# Altium schematic symbol library Integrated circuits.SchLib: 329 symbols (part 5 of 5)
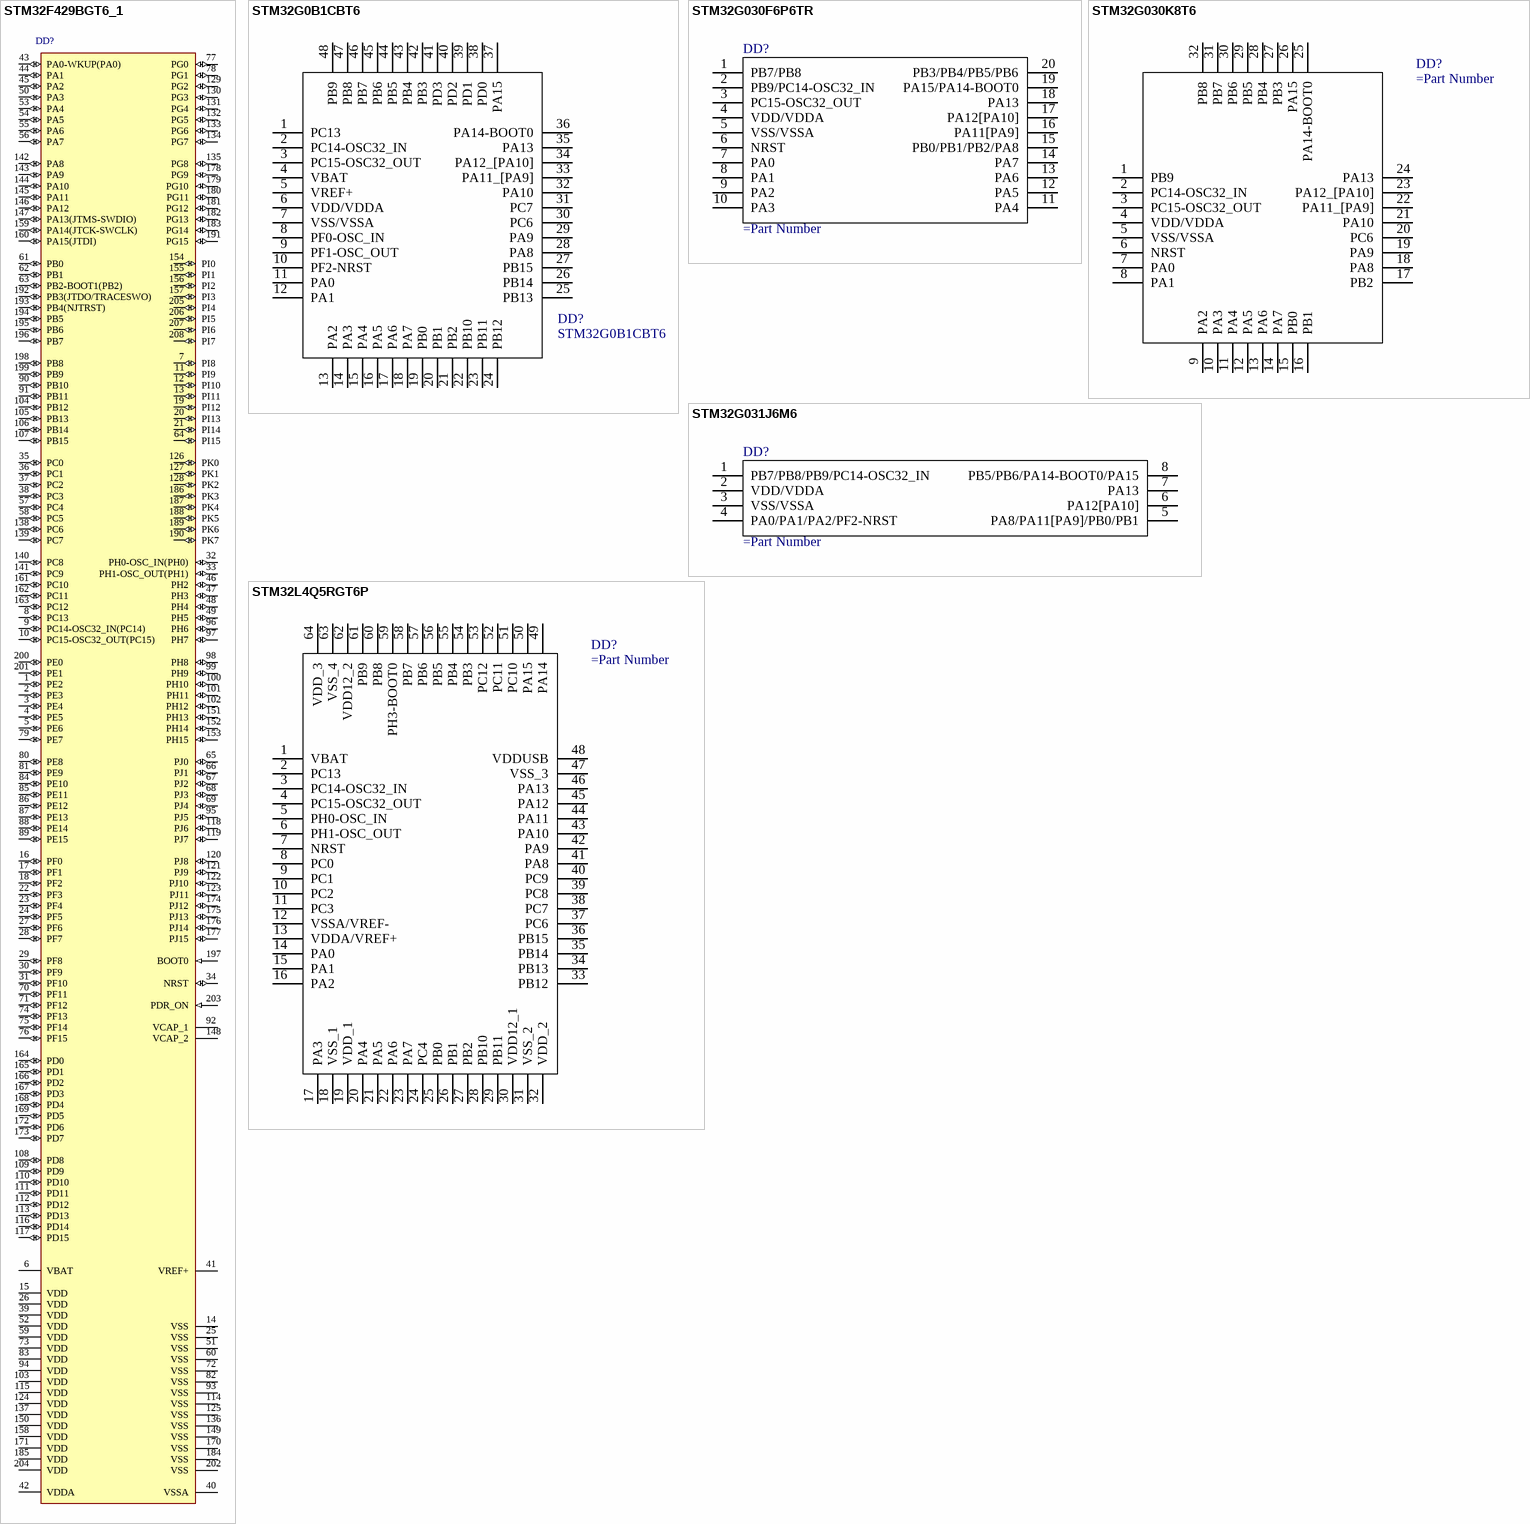
[diagram p29: symbols STM32F429BGT6_1 to STM32L4Q5RGT6P]

## STM32F429BGT6_1
designator DD?
ARM Cortex-M4 32-bit MCU+FPU, 225 DMIPS, 1024 kB Flash, 256 kB Internal RAM, 168 I/Os, 208-pin LQFP, -40 to 85 degC, Tray; Manufacturer: STMicroelectronics; PartNumber: STM32F429BGT6; D/A Converter: 2x12-bit; FLASH Size (Prog) (kB): 1024; I/Os (High Current): 168; Internal RAM Size (kB): 256; Operating Frequency(F) (Processor speed) (MHz): 180; Supply Voltage(Vcc) max (V): 3.6; Supply Voltage(Vcc) min (V): 1.8; DatasheetVersion: Rev. 2; PackageVersion: Rev. 2, 05/2013; PackageReference: LQFP208; PackageDescription: 208-Pin Low Profile Quad Flat Package, 28 x 28 mm Body, 0.5 mm Pitch; Supplier 1: Mouser; Supplier Part Number 1: N/A; Core: ARM Cortex-M4; Packing: Tray; Mounting Technology: Surface Mount; ComponentLink1Description: Manufacturer URL; ComponentLink1URL: http://www.st.com/web/en/home.html; ComponentLink2Description: Datasheet; ComponentLink2URL: http://www.st.com/st-web-ui/static/active/en/resource/technical/document/data_brief/DM00053488.pdf; ComponentLink3Description: Package Specification; ComponentLink3URL: http://www.st.com/st-web-ui/static/active/en/resource/technical/document/data_brief/DM00053488.pdf
footprint STM-LQFP208_N (QFP, 208-Leads, Body 28x28mm, Pitch 0.5mm, IPC Medium Density)
footprint STM-LQFP208_L (QFP, 208-Leads, Body 28x28mm, Pitch 0.5mm, IPC High Density)
footprint STM-LQFP208_M (QFP, 208-Leads, Body 28x28mm, Pitch 0.5mm, IPC Low Density)
pins: 1 PE2 (io) "PE2/TRACECLK,SPI4_SCK,SAI1_MCLK_A,ETH_MII_TXD3,FMC_A23,EVENTOUT", 2 PE3 (io) "PE3/TRACED0,SAI1_SD_B,FMC_A19,EVENTOUT", 3 PE4 (io) "PE4/TRACED1,SPI4_NSS,SAI1_FS_A,FMC_A20,DCMI_D4,LCD_B0,EVENTOUT", 4 PE5 (io) "PE5/TRACED2,TIM9_CH1,SPI4_MISO,SAI1_SCK_A,FMC_A21,DCMI_D6,LCD_G0,EVENTOUT", 5 PE6 (io) "PE6/TRACED3,TIM9_CH2,SPI4_MOSI,SAI1_SD_A,FMC_A22,DCMI_D7,LCD_G1,EVENTOUT", 6 VBAT (power), 7 PI8 (io) "PI8/EVENTOUT/TAMP_2", 8 PC13 (io) "PC13/EVENTOUT/TAMP_1", 9 PC14-OSC32_IN(PC14) (io) "PC14-OSC32_IN(PC14)/EVENTOUT/OSC32_IN", 10 PC15-OSC32_OUT(PC15) (io) "PC15-OSC32_OUT(PC15)/EVENTOUT/OSC32_OUT", 11 PI9 (io) "PI9/CAN1_RX,FMC_D30,LCD_VSYNC,EVENTOUT", 12 PI10 (io) "PI10/ETH_MII_RX_ER,FMC_D31,LCD_HSYNC,EVENTOUT", 13 PI11 (io) "PI11/OTG_HS_ULPI_DIR,EVENTOUT", 14 VSS (power), 15 VDD (power), 16 PF0 (io) "PF0/I2C2_SDA,FMC_A0,EVENTOUT", 17 PF1 (io) "PF1/I2C2_SCL,FMC_A1,EVENTOUT", 18 PF2 (io) "PF2/I2C2_SMBA,FMC_A2,EVENTOUT", 19 PI12 (io) "PI12/LCD_HSYNC,EVENTOUT", 20 PI13 (io) "PI13/LCD_VSYNC,EVENTOUT", 21 PI14 (io) "PI14/LCD_CLK,EVENTOUT", 22 PF3 (io) "PF3/FMC_A3,EVENTOUT/ADC3_IN9", 23 PF4 (io) "PF4/FMC_A4,EVENTOUT/ADC3_IN14", 24 PF5 (io) "PF5/FMC_A5,EVENTOUT/ADC3_IN15", 25 VSS (power), 26 VDD (power), 27 PF6 (io) "PF6/TIM10_CH1,SPI5_NSS,SAI1_SD_B,UART7_RX,FMC_NIORD,EVENTOUT/ADC3_IN4", 28 PF7 (io) "PF7/TIM11_CH1,SPI5_SCK,SAI1_MCLK_B,UART7_TX,FMC_NREG,EVENTOUT/ADC3_IN5", 29 PF8 (io) "PF8/SPI5_MISO,SAI1_SCK_B,TIM13_CH1,FMC_NIOWR,EVENTOUT/ADC3_IN6", 30 PF9 (io) "PF9/SPI5_MOSI,SAI1_FS_B,TIM14_CH1,FMC_CD,EVENTOUT/ADC3_IN7", 31 PF10 (io) "PF10/FMC_INTR,DCMI_D11,LCD_DE,EVENTOUT/ADC3_IN8", 32 PH0-OSC_IN(PH0) (io) "PH0-OSC_IN(PH0)/EVENTOUT/OSC_IN", 33 PH1-OSC_OUT(PH1) (io) "PH1-OSC_OUT(PH1)/EVENTOUT/OSC_OUT", 34 NRST (io), 35 PC0 (io) "PC0/OTG_HS_ULPI_STP,FMC_SDNWE,EVENTOUT/ADC123_IN10", 36 PC1 (io) "PC1/ETH_MDC,EVENTOUT/ADC123_IN11", 37 PC2 (io) "PC2/SPI2_MISO,I2S2ext_SD,OTG_HS_ULPI_DIR,ETH_MII_TXD2,FMC_SDNE0,EVENTOUT/ADC123_IN12", 38 PC3 (io) "PC3/SPI2_MOSI/I2S2_SD,OTG_HS_ULPI_NXT,ETH_MII_TX_CLK,FMC_SDCKE0,EVENTOUT/ADC123_IN13", 39 VDD (power), 40 VSSA (power), 41 VREF+ (power), 42 VDDA (power), 43 PA0-WKUP(PA0) (io) "PA0-WKUP(PA0)/TIM2_CH1/TIM2_ETR,TIM5_CH1,TIM8_ETR,USART2_CTS,UART4_TX,ETH_MII_CRS,EVENTOUT/ADC123_IN0/WKUP", 44 PA1 (io) "PA1/TIM2_CH2,TIM5_CH2,USART2_RTS,UART4_RX,ETH_MII_RX_CLK/ETH_RMII_REF_CLK,EVENTOUT/ADC123_IN1", 45 PA2 (io) "PA2/TIM2_CH3,TIM5_CH3,TIM9_CH1,USART2_TX,ETH_MDIO,EVENTOUT/ADC123_IN2", 46 PH2 (io) "PH2/ETH_MII_CRS,FMC_SDCKE0,LCD_R0,EVENTOUT", 47 PH3 (io) "PH3/ETH_MII_COL,FMC_SDNE0,LCD_R1,EVENTOUT", 48 PH4 (io) "PH4/I2C2_SCL,OTG_HS_ULPI_NXT,EVENTOUT", 49 PH5 (io) "PH5/I2C2_SDA,SPI5_NSS,FMC_SDNWE,EVENTOUT", 50 PA3 (io) "PA3/TIM2_CH4,TIM5_CH4,TIM9_CH2,USART2_RX,OTG_HS_ULPI_D0,ETH_MII_COL,LCD_B5,EVENTOUT/ADC123_IN3", 51 VSS (power), 52 VDD (power), 53 PA4 (io) "PA4/SPI1_NSS,SPI3_NSS/I2S3_WS,USART2_CK,OTG_HS_SOF,DCMI_HSYNC,LCD_VSYNC,EVENTOUT/ADC12_IN4/DAC_OUT1", 54 PA5 (io) "PA5/TIM2_CH1/TIM2_ETR,TIM8_CH1N,SPI1_SCK,OTG_HS_ULPI_CK,EVENTOUT/ADC12_IN5/DAC_OUT2", 55 PA6 (io) "PA6/TIM1_BKIN,TIM3_CH1,TIM8_BKIN,SPI1_MISO,TIM13_CH1,DCMI_PIXCLK,LCD_G2,EVENTOUT/ADC12_IN6", 56 PA7 (io) "PA7/TIM1_CH1N,TIM3_CH2,TIM8_CH1N,SPI1_MOSI,TIM14_CH1,ETH_MII_RX_DV/ETH_RMII_CRS_DV,EVENTOUT/ADC12_IN7", 57 PC4 (io) "PC4/ETH_MII_RXD0/ETH_RMII_RXD0,EVENTOUT/ADC12_IN14", 58 PC5 (io) "PC5/ETH_MII_RXD1/ETH_RMII_RXD1,EVENTOUT/ADC12_IN15", 59 VDD (power), 60 VSS (power), 61 PB0 (io) "PB0/TIM1_CH2N,TIM3_CH3,TIM8_CH2N,LCD_R3,OTG_HS_ULPI_D1,ETH_MII_RXD2,EVENTOUT/ADC12_IN8", 62 PB1 (io) "PB1/TIM1_CH3N,TIM3_CH4,TIM8_CH3N,LCD_R6,OTG_HS_ULPI_D2,ETH_MII_RXD3,EVENTOUT/ADC12_IN9", 63 PB2-BOOT1(PB2) (io) "PB2-BOOT1(PB2)/EVENTOUT", 64 PI15 (io) "PI15/LCD_R0,EVENTOUT", 65 PJ0 (io) "PJ0/LCD_R1,EVENTOUT", 66 PJ1 (io) "PJ1/LCD_R2,EVENTOUT", 67 PJ2 (io) "PJ2/LCD_R3,EVENTOUT", 68 PJ3 (io) "PJ3/LCD_R4,EVENTOUT", 69 PJ4 (io) "PJ4/LCD_R5,EVENTOUT", 70 PF11 (io) "PF11/SPI5_MOSI,FMC_SDNRAS,DCMI_D12,EVENTOUT", 71 PF12 (io) "PF12/FMC_A6,EVENTOUT", 72 VSS (power), 73 VDD (power), 74 PF13 (io) "PF13/FMC_A7,EVENTOUT", 75 PF14 (io) "PF14/FMC_A8,EVENTOUT", 76 PF15 (io) "PF15/FMC_A9,EVENTOUT", 77 PG0 (io) "PG0/FMC_A10,EVENTOUT", 78 PG1 (io) "PG1/FMC_A11,EVENTOUT", 79 PE7 (io) "PE7/TIM1_ETR,UART7_RX,FMC_D4,EVENTOUT", 80 PE8 (io) "PE8/TIM1_CH1N,UART7_TX,FMC_D5,EVENTOUT", 81 PE9 (io) "PE9/TIM1_CH1,FMC_D6,EVENTOUT", 82 VSS (power), 83 VDD (power), 84 PE10 (io) "PE10/TIM1_CH2N,FMC_D7,EVENTOUT", 85 PE11 (io) "PE11/TIM1_CH2,SPI4_NSS,FMC_D8,LCD_G3,EVENTOUT", 86 PE12 (io) "PE12/TIM1_CH3N,SPI4_SCK,FMC_D9,LCD_B4,EVENTOUT", 87 PE13 (io) "PE13/TIM1_CH3,SPI4_MISO,FMC_D10,LCD_DE,EVENTOUT", 88 PE14 (io) "PE14/TIM1_CH4,SPI4_MOSI,FMC_D11,LCD_CLK,EVENTOUT", 89 PE15 (io) "PE15/TIM1_BKIN,FMC_D12,LCD_R7,EVENTOUT", 90 PB10 (io) "PB10/TIM2_CH3,I2C2_SCL,SPI2_SCK/I2S2_CK,USART3_TX,OTG_HS_ULPI_D3,ETH_MII_RX_ER,LCD_G4,EVENTOUT", 91 PB11 (io) "PB11/TIM2_CH4,I2C2_SDA,USART3_RX,OTG_HS_ULPI_D4,ETH_MII_TX_EN/ETH_RMII_TX_EN,LCD_G5,EVENTOUT", 92 VCAP_1 (power), 93 VSS (power), 94 VDD (power), 95 PJ5 (io) "PJ5/LCD_R6,EVENTOUT", 96 PH6 (io) "PH6/I2C2_SMBA,SPI5_SCK,TIM12_CH1,ETH_MII_RXD2,FMC_SDNE1,DCMI_D8,EVENTOUT", 97 PH7 (io) "PH7/I2C3_SCL,SPI5_MISO,ETH_MII_RXD3,FMC_SDCKE1,DCMI_D9,EVENTOUT", 98 PH8 (io) "PH8/I2C3_SDA,FMC_D16,DCMI_HSYNC,LCD_R2,EVENTOUT", 99 PH9 (io) "PH9/I2C3_SMBA,TIM12_CH2,FMC_D17,DCMI_D0,LCD_R3,EVENTOUT", 100 PH10 (io) "PH10/TIM5_CH1,FMC_D18,DCMI_D1,LCD_R4,EVENTOUT", 101 PH11 (io) "PH11/TIM5_CH2,FMC_D19,DCMI_D2,LCD_R5,EVENTOUT", 102 PH12 (io) "PH12/TIM5_CH3,FMC_D20,DCMI_D3,LCD_R6,EVENTOUT", 103 VDD (power), 104 PB12 (io) "PB12/TIM1_BKIN,I2C2_SMBA,SPI2_NSS/I2S2_WS,USART3_CK,CAN2_RX,OTG_HS_ULPI_D5,ETH_MII_TXD0/ETH_RMII_TXD0,OTG_HS_ID,EVENTOUT", 105 PB13 (io) "PB13/TIM1_CH1N,SPI2_SCK/I2S2_CK,USART3_CTS,CAN2_TX,OTG_HS_ULPI_D6,ETH_MII_TXD1/ETH_RMII_TXD1,EVENTOUT/OTG_HS_VBUS", 106 PB14 (io) "PB14/TIM1_CH2N,TIM8_CH2N,SPI2_MISO,I2S2ext_SD,USART3_RTS,TIM12_CH1,EVENTOUT/OTG_HS_DM", 107 PB15 (io) "PB15/RTC_REFIN,TIM1_CH3N,TIM8_CH3N,SPI2_MOSI/I2S2_SD,TIM12_CH2,EVENTOUT/OTG_HS_DP", 108 PD8 (io) "PD8/USART3_TX,FMC_D13,EVENTOUT", 109 PD9 (io) "PD9/USART3_RX,FMC_D14,EVENTOUT", 110 PD10 (io) "PD10/USART3_CK,FMC_D15,LCD_B3,EVENTOUT", 111 PD11 (io) "PD11/USART3_CTS,FMC_A16,EVENTOUT", 112 PD12 (io) "PD12/TIM4_CH1,USART3_RTS,FMC_A17,EVENTOUT", 113 PD13 (io) "PD13/TIM4_CH2,FMC_A18,EVENTOUT", 114 VSS (power), 115 VDD (power), 116 PD14 (io) "PD14/TIM4_CH3,FMC_D0,EVENTOUT", 117 PD15 (io) "PD15/TIM4_CH4,FMC_D1,EVENTOUT", 118 PJ6 (io) "PJ6/LCD_R7,EVENTOUT", 119 PJ7 (io) "PJ7/LCD_G0,EVENTOUT", 120 PJ8 (io) "PJ8/LCD_G1,EVENTOUT", 121 PJ9 (io) "PJ9/LCD_G2,EVENTOUT", 122 PJ10 (io) "PJ10/LCD_G3,EVENTOUT", 123 PJ11 (io) "PJ11/LCD_G4,EVENTOUT", 124 VDD (power), 125 VSS (power), 126 PK0 (io) "PK0/LCD_G5,EVENTOUT", 127 PK1 (io) "PK1/LCD_G6,EVENTOUT", 128 PK2 (io) "PK2/LCD_G7,EVENTOUT", 129 PG2 (io) "PG2/FMC_A12,EVENTOUT", 130 PG3 (io) "PG3/FMC_A13,EVENTOUT", 131 PG4 (io) "PG4/FMC_A14/FMC_BA0,EVENTOUT", 132 PG5 (io) "PG5/FMC_A15/FMC_BA1,EVENTOUT", 133 PG6 (io) "PG6/FMC_INT2,DCMI_D12,LCD_R7,EVENTOUT", 134 PG7 (io) "PG7/USART6_CK,FMC_INT3,DCMI_D13,LCD_CLK,EVENTOUT", 135 PG8 (io) "PG8/SPI6_NSS,USART6_RTS,ETH_PPS_OUT,FMC_SDCLK,EVENTOUT", 136 VSS (power), 137 VDD (power), 138 PC6 (io) "PC6/TIM3_CH1,TIM8_CH1,I2S2_MCK,USART6_TX,SDIO_D6,DCMI_D0,LCD_HSYNC,EVENTOUT", 139 PC7 (io) "PC7/TIM3_CH2,TIM8_CH2,I2S3_MCK,USART6_RX,SDIO_D7,DCMI_D1,LCD_G6,EVENTOUT", 140 PC8 (io) "PC8/TIM3_CH3,TIM8_CH3,USART6_CK,SDIO_D0,DCMI_D2,EVENTOUT", 141 PC9 (io) "PC9/MCO2,TIM3_CH4,TIM8_CH4,I2C3_SDA,I2S_CKIN,SDIO_D1,DCMI_D3,EVENTOUT", 142 PA8 (io) "PA8/MCO1,TIM1_CH1,I2C3_SCL,USART1_CK,OTG_FS_SOF,LCD_R6,EVENTOUT", 143 PA9 (io) "PA9/TIM1_CH2,I2C3_SMBA,USART1_TX,DCMI_D0,EVENTOUT/OTG_FS_VBUS", 144 PA10 (io) "PA10/TIM1_CH3,USART1_RX,OTG_FS_ID,DCMI_D1,EVENTOUT", 145 PA11 (io) "PA11/TIM1_CH4,USART1_CTS,CAN1_RX,LCD_R4,EVENTOUT/OTG_FS_DM", 146 PA12 (io) "PA12/TIM1_ETR,USART1_RTS,CAN1_TX,LCD_R5,EVENTOUT/OTG_FS_DP", 147 PA13(JTMS-SWDIO) (io) "PA13(JTMS-SWDIO)/JTMS-SWDIO,EVENTOUT", 148 VCAP_2 (power), 149 VSS (power), 150 VDD (power), 151 PH13 (io) "PH13/TIM8_CH1N,CAN1_TX,FMC_D21,LCD_G2,EVENTOUT", 152 PH14 (io) "PH14/TIM8_CH2N,FMC_D22,DCMI_D4,LCD_G3,EVENTOUT", 153 PH15 (io) "PH15/TIM8_CH3N,FMC_D23,DCMI_D11,LCD_G4,EVENTOUT", 154 PI0 (io) "PI0/TIM5_CH4,SPI2_NSS/I2S2_WS,FMC_D24,DCMI_D13,LCD_G5,EVENTOUT", 155 PI1 (io) "PI1/SPI2_SCK/I2S2_CK,FMC_D25,DCMI_D8,LCD_G6,EVENTOUT", 156 PI2 (io) "PI2/TIM8_CH4,SPI2_MISO,I2S2ext_SD,FMC_D26,DCMI_D9,LCD_G7,EVENTOUT", 157 PI3 (io) "PI3/TIM8_ETR,SPI2_MOSI/I2S2_SD,FMC_D27,DCMI_D10,EVENTOUT", 158 VDD (power), 159 PA14(JTCK-SWCLK) (io) "PA14(JTCK-SWCLK)/JTCK-SWCLK/EVENTOUT", 160 PA15(JTDI) (io) "PA15(JTDI)/JTDI,TIM2_CH1/TIM2_ETR,SPI1_NSS,SPI3_NSS/I2S3_WS,EVENTOUT", 161 PC10 (io) "PC10/SPI3_SCK/I2S3_CK,USART3_TX,UART4_TX,SDIO_D2,DCMI_D8,LCD_R2,EVENTOUT", 162 PC11 (io) "PC11/I2S3ext_SD,SPI3_MISO,USART3_RX,UART4_RX,SDIO_D3,DCMI_D4,EVENTOUT", 163 PC12 (io) "PC12/SPI3_MOSI/I2S3_SD,USART3_CK,UART5_TX,SDIO_CK,DCMI_D9,EVENTOUT", 164 PD0 (io) "PD0/CAN1_RX,FMC_D2,EVENTOUT", 165 PD1 (io) "PD1/CAN1_TX,FMC_D3,EVENTOUT", 166 PD2 (io) "PD2/TIM3_ETR,UART5_RX,SDIO_CMD,DCMI_D11,EVENTOUT", 167 PD3 (io) "PD3/SPI2_SCK/I2S2_CK,USART2_CTS,FMC_CLK,DCMI_D5,LCD_G7,EVENTOUT", 168 PD4 (io) "PD4/USART2_RTS,FMC_NOE,EVENTOUT", 169 PD5 (io) "PD5/USART2_TX,FMC_NWE,EVENTOUT", 170 VSS (power), 171 VDD (power), 172 PD6 (io) "PD6/SPI3_MOSI/I2S3_SD,SAI1_SD_A,USART2_RX,FMC_NWAIT,DCMI_D10,LCD_B2,EVENTOUT", 173 PD7 (io) "PD7/USART2_CK,FMC_NE1/FMC_NCE2,EVENTOUT", 174 PJ12 (io) "PJ12/LCD_B0,EVENTOUT", 175 PJ13 (io) "PJ13/LCD_B1,EVENTOUT", 176 PJ14 (io) "PJ14/LCD_B2,EVENTOUT", 177 PJ15 (io) "PJ15/LCD_B3,EVENTOUT", 178 PG9 (io) "PG9/USART6_RX,FMC_NE2/FMC_NCE3,EVENTOUT", 179 PG10 (io) "PG10/LCD_G3,FMC_NCE4_1/FMC_NE3,DCMI_D2,LCD_B2,EVENTOUT", 180 PG11 (io) "PG11/ETH_MII_TX_EN/ETH_RMII_TX_EN,FMC_NCE4_2,DCMI_D3,LCD_B3,EVENTOUT", 181 PG12 (io) "PG12/SPI6_MISO,USART6_RTS,LCD_B4,FMC_NE4,LCD_B1,EVENTOUT", 182 PG13 (io) "PG13/SPI6_SCK,USART6_CTS,ETH_MII_TXD0/ETH_RMII_TXD0,FMC_A24,EVENTOUT", 183 PG14 (io) "PG14/SPI6_MOSI,USART6_TX,ETH_MII_TXD1/ETH_RMII_TXD1,FMC_A25,EVENTOUT", 184 VSS (power), 185 VDD (power), 186 PK3 (io) "PK3/LCD_B4,EVENTOUT", 187 PK4 (io) "PK4/LCD_B5,EVENTOUT", 188 PK5 (io) "PK5/LCD_B6,EVENTOUT", 189 PK6 (io) "PK6/LCD_B7,EVENTOUT", 190 PK7 (io) "PK7/LCD_DE,EVENTOUT", 191 PG15 (io) "PG15/USART6_CTS,FMC_SDNCAS,DCMI_D13,EVENTOUT", 192 PB3(JTDO/TRACESWO) (io) "PB3(JTDO/TRACESWO)/JTDO/TRACESWO,TIM2_CH2,SPI1_SCK,SPI3_SCK/I2S3_CK,EVENTOUT", 193 PB4(NJTRST) (io) "PB4(NJTRST)/NJTRST,TIM3_CH1,SPI1_MISO,SPI3_MISO,I2S3ext_SD,EVENTOUT", 194 PB5 (io) "PB5/TIM3_CH2,I2C1_SMBA,SPI1_MOSI,SPI3_MOSI/I2S3_SD,CAN2_RX,OTG_HS_ULPI_D7,ETH_PPS_OUT,FMC_SDCKE1,DCMI_D10,EVENTOUT", 195 PB6 (io) "PB6/TIM4_CH1,I2C1_SCL,USART1_TX,CAN2_TX,FMC_SDNE1,DCMI_D5,EVENTOUT", 196 PB7 (io) "PB7/TIM4_CH2,I2C1_SDA,USART1_RX,FMC_NL,DCMI_VSYNC,EVENTOUT", 197 BOOT0 (in) "BOOT0/VPP", 198 PB8 (io) "PB8/TIM4_CH3,TIM10_CH1,I2C1_SCL,CAN1_RX,ETH_MII_TXD3,SDIO_D4,DCMI_D6,LCD_B6,EVENTOUT", 199 PB9 (io) "PB9/TIM4_CH4,TIM11_CH1,I2C1_SDA,SPI2_NSS/I2S2_WS,CAN1_TX,SDIO_D5,DCMI_D7,LCD_B7,EVENTOUT", 200 PE0 (io) "PE0/TIM4_ETR,UART8_RX,FMC_NBL0,DCMI_D2,EVENTOUT", 201 PE1 (io) "PE1/UART8_TX,FMC_NBL1,DCMI_D3,EVENTOUT", 202 VSS (power), 203 PDR_ON (in), 204 VDD (power), 205 PI4 (io) "PI4/TIM8_BKIN,FMC_NBL2,DCMI_D5,LCD_B4,EVENTOUT", 206 PI5 (io) "PI5/TIM8_CH1,FMC_NBL3,DCMI_VSYNC,LCD_B5,EVENTOUT", 207 PI6 (io) "PI6/TIM8_CH2,FMC_D28,DCMI_D6,LCD_B6,EVENTOUT", 208 PI7 (io) "PI7/TIM8_CH3,FMC_D29,DCMI_D7,LCD_B7,EVENTOUT"

## STM32G0B1CBT6
designator DD?
Arm Cortex-M0+ 32-bit MCU, up to 512KB Flash, 144KB RAM, 6x USART, timers, ADC, DAC, comm. I/Fs, 1.7-3.6V; Manufacturer_Name: STMicroelectronics; Geometry.Height: 1.6mm; Mouser Part Number: 511-STM32G0B1CBT6; Mouser Price/Stock: https://www.mouser.co.uk/ProductDetail/STMicroelectronics/STM32G0B1CBT6?qs=CiayqK2gdcKaQJ%2FcS3grXw%3D%3D; Manufacturer_Part_Number: STM32G0B1CBT6; Datasheet Link: https://www.st.com/resource/en/datasheet/stm32g0b1cc.pdf
footprint QFP50P900X900X160-48N
pins: 1 PC13, 2 PC14-OSC32_IN, 3 PC15-OSC32_OUT, 4 VBAT, 5 VREF+, 6 VDD/VDDA, 7 VSS/VSSA, 8 PF0-OSC_IN, 9 PF1-OSC_OUT, 10 PF2-NRST, 11 PA0, 12 PA1, 13 PA2, 14 PA3, 15 PA4, 16 PA5, 17 PA6, 18 PA7, 19 PB0, 20 PB1, 21 PB2, 22 PB10, 23 PB11, 24 PB12, 25 PB13, 26 PB14, 27 PB15, 28 PA8, 29 PA9, 30 PC6, 31 PC7, 32 PA10, 33 PA11_[PA9], 34 PA12_[PA10], 35 PA13, 36 PA14-BOOT0, 37 PA15, 38 PD0, 39 PD1, 40 PD2, 41 PD3, 42 PB3, 43 PB4, 44 PB5, 45 PB6, 46 PB7, 47 PB8, 48 PB9

## STM32G030F6P6TR
designator DD?
Integrated Circuit; Manufacturer_Name: STMicroelectronics; Manufacturer_Part_Number: STM32G030F6P6TR; Datasheet Link: https://www.st.com/resource/en/datasheet/stm32g030f6.pdf; Height: 1.2mm; Mouser Part Number: 511-STM32G030F6P6TR; Mouser Price/Stock: https://www.mouser.co.uk/ProductDetail/STMicroelectronics/STM32G030F6P6TR?qs=xZ%2FP%252Ba9zWqbCpBN9FNM5kA%3D%3D; Arrow Part Number: STM32G030F6P6TR; Arrow Price/Stock: https://www.arrow.com/en/products/stm32g030f6p6tr/stmicroelectronics?region=nac
footprint CLT34BT6
pins: 1 PB7/PB8, 2 PB9/PC14-OSC32_IN, 3 PC15-OSC32_OUT, 4 VDD/VDDA, 5 VSS/VSSA, 6 NRST, 7 PA0, 8 PA1, 9 PA2, 10 PA3, 11 PA4, 12 PA5, 13 PA6, 14 PA7, 15 PB0/PB1/PB2/PA8, 16 PA11[PA9], 17 PA12[PA10], 18 PA13, 19 PA15/PA14-BOOT0, 20 PB3/PB4/PB5/PB6

## STM32G030K8T6
designator DD?
Integrated Circuit; Manufacturer_Name: STMicroelectronics; Manufacturer_Part_Number: STM32G030K8T6; Datasheet Link: https://www.st.com/resource/en/datasheet/stm32g030k8.pdf; Height: 1.6mm; Mouser Part Number: 511-STM32G030K8T6; Mouser Price/Stock: https://www.mouser.co.uk/ProductDetail/STMicroelectronics/STM32G030K8T6?qs=uwxL4vQweFNI0iEefyN2tQ%3D%3D; Arrow Part Number: STM32G030K8T6; Arrow Price/Stock: https://www.arrow.com/en/products/stm32g030k8t6/stmicroelectronics?region=nac
footprint QFP80P900X900X160-32N
pins: 1 PB9, 2 PC14-OSC32_IN, 3 PC15-OSC32_OUT, 4 VDD/VDDA, 5 VSS/VSSA, 6 NRST, 7 PA0, 8 PA1, 9 PA2, 10 PA3, 11 PA4, 12 PA5, 13 PA6, 14 PA7, 15 PB0, 16 PB1, 17 PB2, 18 PA8, 19 PA9, 20 PC6, 21 PA10, 22 PA11_[PA9], 23 PA12_[PA10], 24 PA13, 25 PA14-BOOT0, 26 PA15, 27 PB3, 28 PB4, 29 PB5, 30 PB6, 31 PB7, 32 PB8

## STM32G031J6M6
designator DD?
Integrated Circuit; Manufacturer_Name: STMicroelectronics; Manufacturer_Part_Number: STM32G031J6M6; Datasheet Link: https://www.mouser.com/datasheet/2/389/en.DM00371828-1620887.pdf; Height: 1.75mm; Mouser Part Number: 511-STM32G031J6M6; Mouser Price/Stock: https://www.mouser.co.uk/ProductDetail/STMicroelectronics/STM32G031J6M6?qs=uwxL4vQweFOrzBadnQ6n1g%3D%3D; Arrow Part Number: STM32G031J6M6; Arrow Price/Stock: https://www.arrow.com/en/products/stm32g031j6m6/stmicroelectronics?region=nac
footprint SOIC127P600X175-8N
pins: 1 PB7/PB8/PB9/PC14-OSC32_IN, 2 VDD/VDDA, 3 VSS/VSSA, 4 PA0/PA1/PA2/PF2-NRST, 5 PA8/PA11[PA9]/PB0/PB1, 6 PA12[PA10], 7 PA13, 8 PB5/PB6/PA14-BOOT0/PA15

## STM32L4Q5RGT6P
designator DD?
Integrated Circuit; Manufacturer_Name: STMicroelectronics; Manufacturer_Part_Number: STM32L4Q5RGT6P; Datasheet Link: https://www.st.com/resource/en/datasheet/stm32l4q5ag.pdf; Height: 1.6mm; Mouser Part Number: 511-STM32L4Q5RGT6P; Mouser Price/Stock: https://www.mouser.co.uk/ProductDetail/STMicroelectronics/STM32L4Q5RGT6P?qs=xZ%2FP%252Ba9zWqaZNO7fkUP8WA%3D%3D
footprint QFP50P1200X1200X160-64N
pins: 1 VBAT, 2 PC13, 3 PC14-OSC32_IN, 4 PC15-OSC32_OUT, 5 PH0-OSC_IN, 6 PH1-OSC_OUT, 7 NRST, 8 PC0, 9 PC1, 10 PC2, 11 PC3, 12 VSSA/VREF-, 13 VDDA/VREF+, 14 PA0, 15 PA1, 16 PA2, 17 PA3, 18 VSS_1, 19 VDD_1, 20 PA4, 21 PA5, 22 PA6, 23 PA7, 24 PC4, 25 PB0, 26 PB1, 27 PB2, 28 PB10, 29 PB11, 30 VDD12_1, 31 VSS_2, 32 VDD_2, 33 PB12, 34 PB13, 35 PB14, 36 PB15, 37 PC6, 38 PC7, 39 PC8, 40 PC9, 41 PA8, 42 PA9, 43 PA10, 44 PA11, 45 PA12, 46 PA13, 47 VSS_3, 48 VDDUSB, 49 PA14, 50 PA15, 51 PC10, 52 PC11, 53 PC12, 54 PB3, 55 PB4, 56 PB5, 57 PB6, 58 PB7, 59 PH3-BOOT0, 60 PB8, 61 PB9, 62 VDD12_2, 63 VSS_4, 64 VDD_3

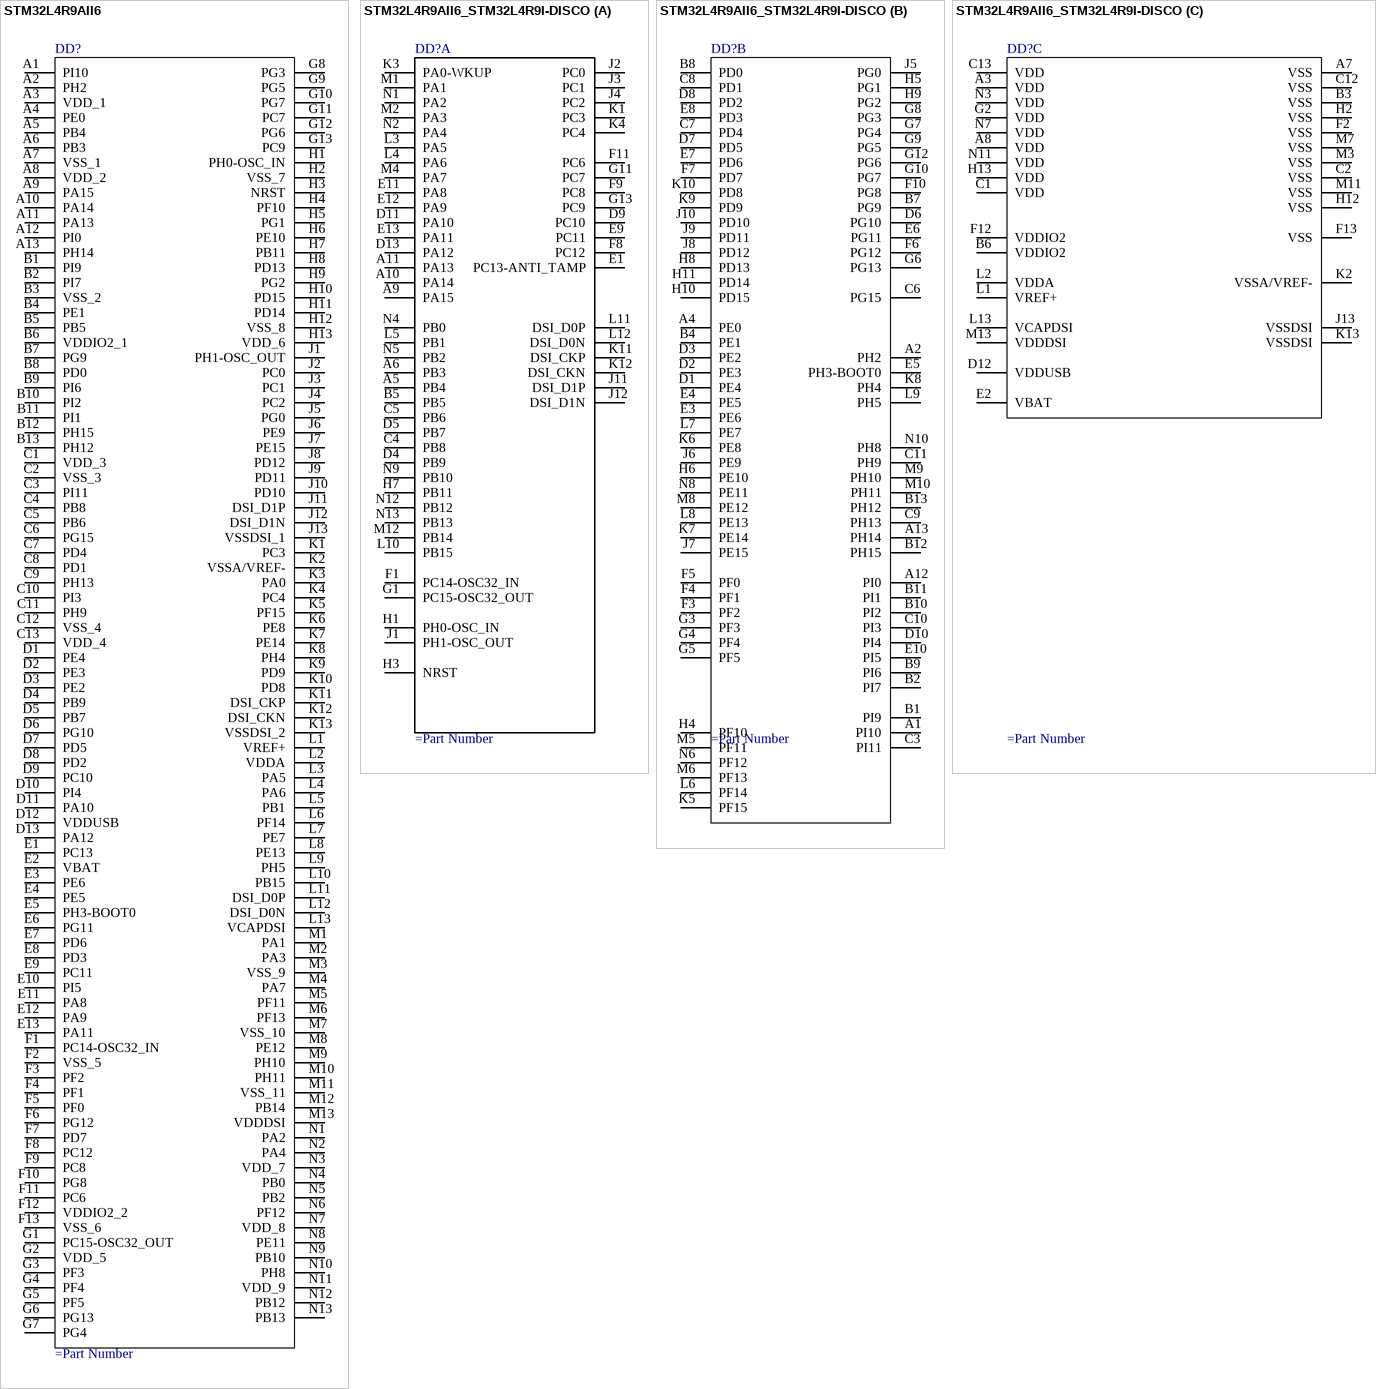
[diagram p22: symbols STM32L4R9AII6 to STM32L4R9AII6_STM32L4R9I-DISCO]

## STM32L4R9AII6
designator DD?
Integrated Circuit; Manufacturer_Name: STMicroelectronics; Manufacturer_Part_Number: STM32L4R9AII6; Datasheet Link: https://componentsearchengine.com/Datasheets/1/STM32L4R9AII6.pdf; Height: 0.6mm; Mouser Part Number: 511-STM32L4R9AII6; Mouser Price/Stock: https://www.mouser.co.uk/ProductDetail/STMicroelectronics/STM32L4R9AII6?qs=j%252B1pi9TdxUZNtxBu8M7E%252Bg%3D%3D; Arrow Part Number: STM32L4R9AII6; Arrow Price/Stock: https://www.arrow.com/en/products/stm32l4r9aii6/stmicroelectronics?region=nac
footprint BGA169C50P13X13_700X700X60
pins: A1 PI10, A2 PH2, A3 VDD_1, A4 PE0, A5 PB4, A6 PB3, A7 VSS_1, A8 VDD_2, A9 PA15, A10 PA14, A11 PA13, A12 PI0, A13 PH14, B1 PI9, B2 PI7, B3 VSS_2, B4 PE1, B5 PB5, B6 VDDIO2_1, B7 PG9, B8 PD0, B9 PI6, B10 PI2, B11 PI1, B12 PH15, B13 PH12, C1 VDD_3, C2 VSS_3, C3 PI11, C4 PB8, C5 PB6, C6 PG15, C7 PD4, C8 PD1, C9 PH13, C10 PI3, C11 PH9, C12 VSS_4, C13 VDD_4, D1 PE4, D2 PE3, D3 PE2, D4 PB9, D5 PB7, D6 PG10, D7 PD5, D8 PD2, D9 PC10, D10 PI4, D11 PA10, D12 VDDUSB, D13 PA12, E1 PC13, E2 VBAT, E3 PE6, E4 PE5, E5 PH3-BOOT0, E6 PG11, E7 PD6, E8 PD3, E9 PC11, E10 PI5, E11 PA8, E12 PA9, E13 PA11, F1 PC14-OSC32_IN, F2 VSS_5, F3 PF2, F4 PF1, F5 PF0, F6 PG12, F7 PD7, F8 PC12, F9 PC8, F10 PG8, F11 PC6, F12 VDDIO2_2, F13 VSS_6, G1 PC15-OSC32_OUT, G2 VDD_5, G3 PF3, G4 PF4, G5 PF5, G6 PG13, G7 PG4, G8 PG3, G9 PG5, G10 PG7, G11 PC7, G12 PG6, G13 PC9, H1 PH0-OSC_IN, H2 VSS_7, H3 NRST, H4 PF10, H5 PG1, H6 PE10, H7 PB11, H8 PD13, H9 PG2, H10 PD15, H11 PD14, H12 VSS_8, H13 VDD_6, J1 PH1-OSC_OUT, J2 PC0, J3 PC1, J4 PC2, J5 PG0, J6 PE9, J7 PE15, J8 PD12, J9 PD11, J10 PD10, J11 DSI_D1P, J12 DSI_D1N, J13 VSSDSI_1, K1 PC3, K2 VSSA/VREF-, K3 PA0, K4 PC4, K5 PF15, K6 PE8, K7 PE14, K8 PH4, K9 PD9, K10 PD8, K11 DSI_CKP, K12 DSI_CKN, K13 VSSDSI_2, L1 VREF+, L2 VDDA, L3 PA5, L4 PA6, L5 PB1, L6 PF14, L7 PE7, L8 PE13, L9 PH5, L10 PB15, L11 DSI_D0P, L12 DSI_D0N, L13 VCAPDSI, M1 PA1, M2 PA3, M3 VSS_9, M4 PA7, M5 PF11, M6 PF13, M7 VSS_10, M8 PE12, M9 PH10, M10 PH11, M11 VSS_11, M12 PB14, M13 VDDDSI, N1 PA2, N2 PA4, N3 VDD_7, N4 PB0, N5 PB2, N6 PF12, N7 VDD_8, N8 PE11, N9 PB10, N10 PH8, N11 VDD_9, N12 PB12, N13 PB13

## STM32L4R9AII6_STM32L4R9I-DISCO
designator DD?
STM32L4Rx (STM32L4Rx ORCAPlus) UFBGA169 DSI; Manuf_1: STM; Manuf_Part_1: STM32L4R9AII6; ECCN_US/EU: 3A991A2/NEC; Provided: ST; Fitted: YES; Distrib: ST; Order: STM32L4R9AII6; Ordered by: STM
footprint UFBGA169 (Footprint not found)
part A pins: A5 PB4, A6 PB3, A9 PA15, A10 PA14, A11 PA13, B5 PB5, C4 PB8, C5 PB6, D4 PB9, D5 PB7, D9 PC10, D11 PA10, D13 PA12, E1 PC13-ANTI_TAMP, E9 PC11, E11 PA8, E12 PA9, E13 PA11, F1 PC14-OSC32_IN, F8 PC12, F9 PC8, F11 PC6, G1 PC15-OSC32_OUT, G11 PC7, G13 PC9, H1 PH0-OSC_IN, H3 NRST, H7 PB11, J1 PH1-OSC_OUT, J2 PC0, J3 PC1, J4 PC2, J11 DSI_D1P, J12 DSI_D1N, K1 PC3, K3 PA0-WKUP, K4 PC4, K11 DSI_CKP, K12 DSI_CKN, L3 PA5, L4 PA6, L5 PB1, L10 PB15, L11 DSI_D0P, L12 DSI_D0N, M1 PA1, M2 PA3, M4 PA7, M12 PB14, N1 PA2, N2 PA4, N4 PB0, N5 PB2, N9 PB10, N12 PB12, N13 PB13
part B pins: A1 PI10, A2 PH2, A4 PE0, A12 PI0, A13 PH14, B1 PI9, B2 PI7, B4 PE1, B7 PG9, B8 PD0, B9 PI6, B10 PI2, B11 PI1, B12 PH15, B13 PH12, C3 PI11, C6 PG15, C7 PD4, C8 PD1, C9 PH13, C10 PI3, C11 PH9, D1 PE4, D2 PE3, D3 PE2, D6 PG10, D7 PD5, D8 PD2, D10 PI4, E3 PE6, E4 PE5, E5 PH3-BOOT0, E6 PG11, E7 PD6, E8 PD3, E10 PI5, F3 PF2, F4 PF1, F5 PF0, F6 PG12, F7 PD7, F10 PG8, G3 PF3, G4 PF4, G5 PF5, G6 PG13, G7 PG4, G8 PG3, G9 PG5, G10 PG7, G12 PG6, H4 PF10, H5 PG1, H6 PE10, H8 PD13, H9 PG2, H10 PD15, H11 PD14, J5 PG0, J6 PE9, J7 PE15, J8 PD12, J9 PD11, J10 PD10, K5 PF15, K6 PE8, K7 PE14, K8 PH4, K9 PD9, K10 PD8, L6 PF14, L7 PE7, L8 PE13, L9 PH5, M5 PF11, M6 PF13, M8 PE12, M9 PH10, M10 PH11, N6 PF12, N8 PE11, N10 PH8
part C pins: A3 VDD, A7 VSS, A8 VDD, B3 VSS, B6 VDDIO2, C1 VDD, C2 VSS, C12 VSS, C13 VDD, D12 VDDUSB, E2 VBAT, F2 VSS, F12 VDDIO2, F13 VSS, G2 VDD, H2 VSS, H12 VSS, H13 VDD, J13 VSSDSI, K2 VSSA/VREF-, K13 VSSDSI, L1 VREF+, L2 VDDA, L13 VCAPDSI, M3 VSS, M7 VSS, M11 VSS, M13 VDDDSI, N3 VDD, N7 VDD, N11 VDD
2 alternate drawings of the same symbol

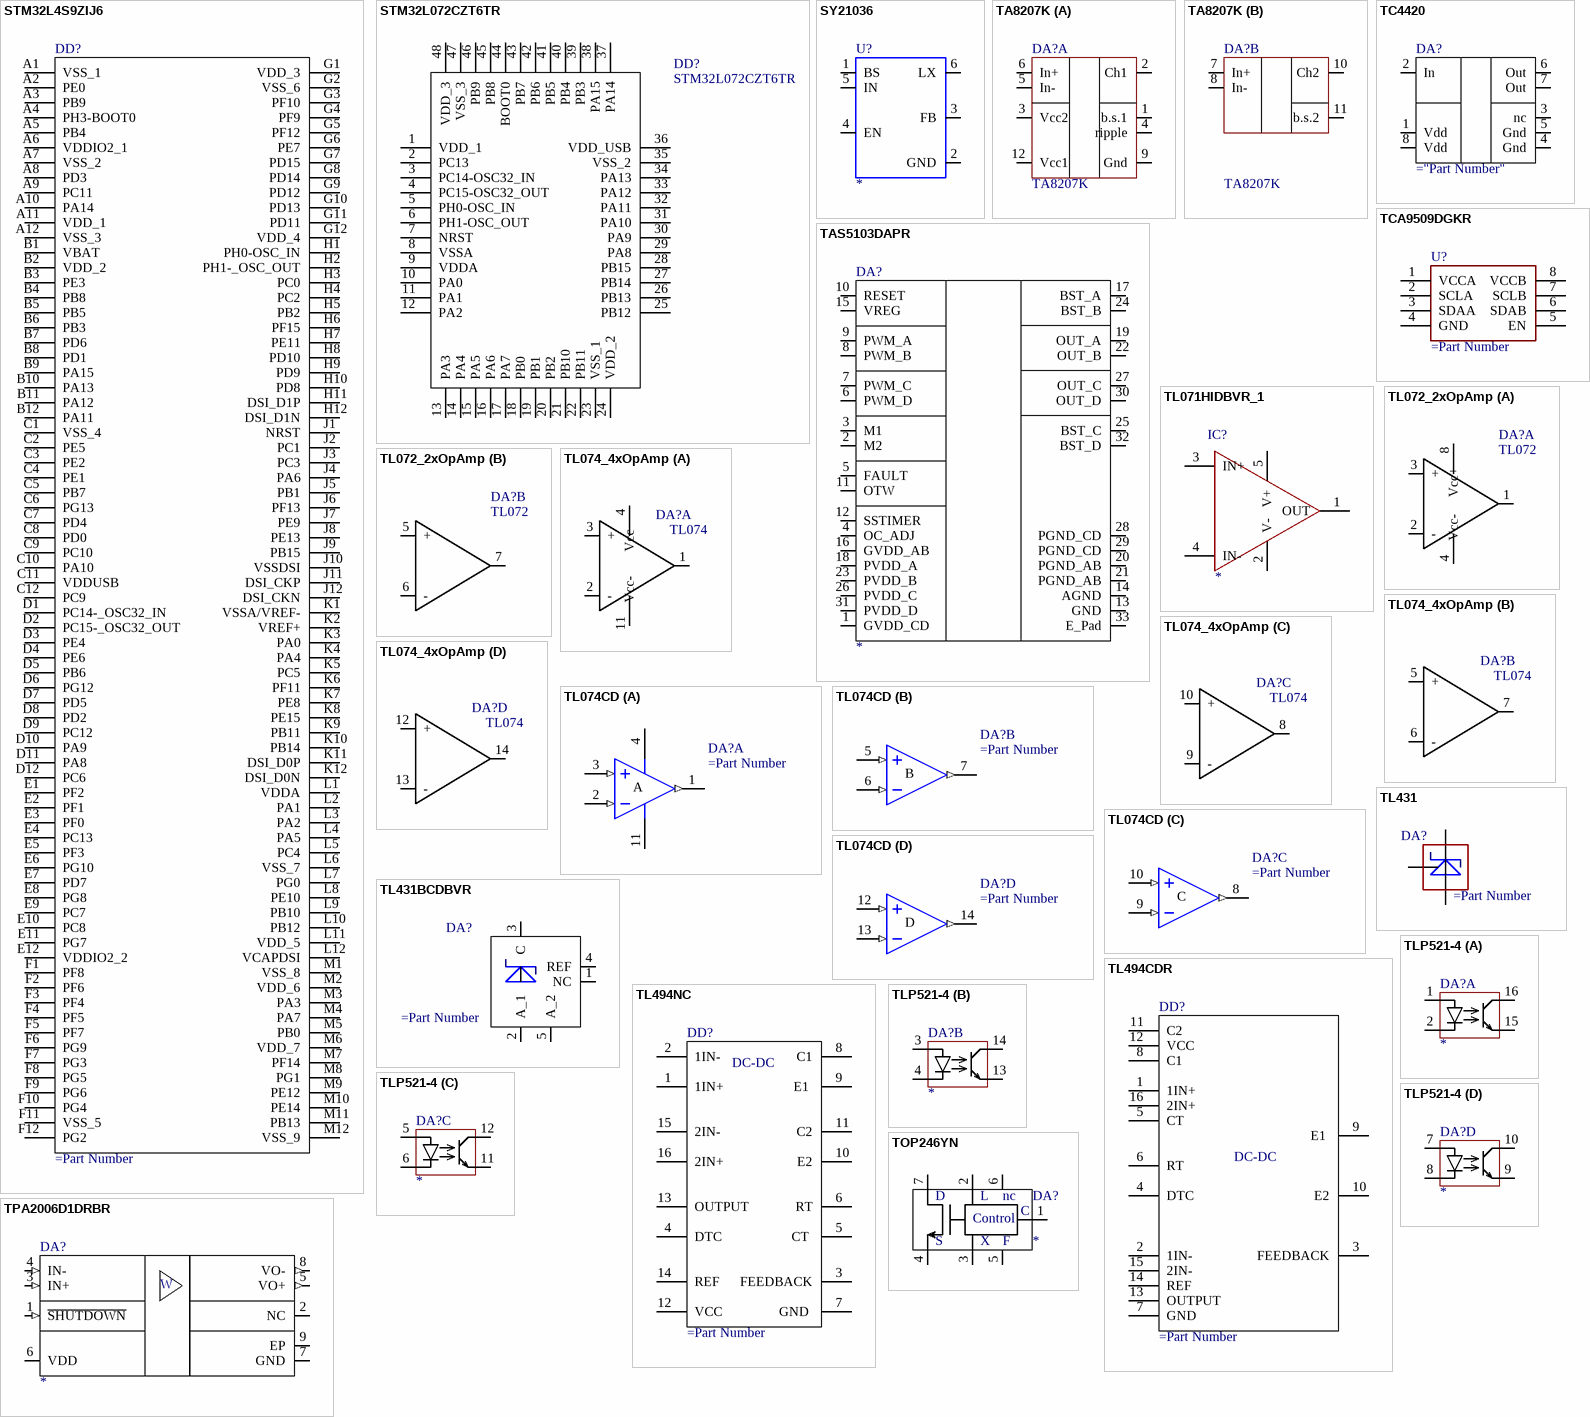
[diagram p23: symbols STM32L4S9ZIJ6 to TPA2006D1DRBR]

## STM32L4S9ZIJ6
designator DD?
Integrated Circuit; Manufacturer_Name: STMicroelectronics; Manufacturer_Part_Number: STM32L4S9ZIJ6; Datasheet Link: https://www.arrow.com/en/products/stm32l4s9zij6/stmicroelectronics; Height: 0.6mm; Mouser Part Number: 511-STM32L4S9ZIJ6; Mouser Price/Stock: https://www.mouser.co.uk/ProductDetail/STMicroelectronics/STM32L4S9ZIJ6?qs=wd5RIQLrsJg9v6yrBmUfvA%3D%3D; Arrow Part Number: STM32L4S9ZIJ6; Arrow Price/Stock: https://www.arrow.com/en/products/stm32l4s9zij6/stmicroelectronics?region=nac
footprint BGA144C80P12X12_1000X1000X60
pins: A1 VSS_1, A2 PE0, A3 PB9, A4 PH3-BOOT0, A5 PB4, A6 VDDIO2_1, A7 VSS_2, A8 PD3, A9 PC11, A10 PA14, A11 VDD_1, A12 VSS_3, B1 VBAT, B2 VDD_2, B3 PE3, B4 PB8, B5 PB5, B6 PB3, B7 PD6, B8 PD1, B9 PA15, B10 PA13, B11 PA12, B12 PA11, C1 VSS_4, C2 PE5, C3 PE2, C4 PE1, C5 PB7, C6 PG13, C7 PD4, C8 PD0, C9 PC10, C10 PA10, C11 VDDUSB, C12 PC9, D1 PC14-_OSC32_IN, D2 PC15-_OSC32_OUT, D3 PE4, D4 PE6, D5 PB6, D6 PG12, D7 PD5, D8 PD2, D9 PC12, D10 PA9, D11 PA8, D12 PC6, E1 PF2, E2 PF1, E3 PF0, E4 PC13, E5 PF3, E6 PG10, E7 PD7, E8 PG8, E9 PC7, E10 PC8, E11 PG7, E12 VDDIO2_2, F1 PF8, F2 PF6, F3 PF4, F4 PF5, F5 PF7, F6 PG9, F7 PG3, F8 PG5, F9 PG6, F10 PG4, F11 VSS_5, F12 PG2, G1 VDD_3, G2 VSS_6, G3 PF10, G4 PF9, G5 PF12, G6 PE7, G7 PD15, G8 PD14, G9 PD12, G10 PD13, G11 PD11, G12 VDD_4, H1 PH0-OSC_IN, H2 PH1-_OSC_OUT, H3 PC0, H4 PC2, H5 PB2, H6 PF15, H7 PE11, H8 PD10, H9 PD9, H10 PD8, H11 DSI_D1P, H12 DSI_D1N, J1 NRST, J2 PC1, J3 PC3, J4 PA6, J5 PB1, J6 PF13, J7 PE9, J8 PE13, J9 PB15, J10 VSSDSI, J11 DSI_CKP, J12 DSI_CKN, K1 VSSA/VREF-, K2 VREF+, K3 PA0, K4 PA4, K5 PC5, K6 PF11, K7 PE8, K8 PE15, K9 PB11, K10 PB14, K11 DSI_D0P, K12 DSI_D0N, L1 VDDA, L2 PA1, L3 PA2, L4 PA5, L5 PC4, L6 VSS_7, L7 PG0, L8 PE10, L9 PB10, L10 PB12, L11 VDD_5, L12 VCAPDSI, M1 VSS_8, M2 VDD_6, M3 PA3, M4 PA7, M5 PB0, M6 VDD_7, M7 PF14, M8 PG1, M9 PE12, M10 PE14, M11 PB13, M12 VSS_9

## STM32L072CZT6TR
designator DD?
ARM Microcontrollers - IC MCU 32BIT 192KB FLASH 48LQFP; Part Number: STM32L072CZT6TR; HelpURL: https://www.digikey.com/en/products/detail/stmicroelectronics/STM32L072CZT6TR/8257875; Price$: 7.19; Digi-Key Part Number: 497-STM32L072CZT6CT-ND; Manufacturer Part Number: STM32L072CZT6TR; Package: LQFP-48
footprint LQFP48_L
footprint LQFP48_M
pins: 1 VDD_1, 2 PC13, 3 PC14-OSC32_IN, 4 PC15-OSC32_OUT, 5 PH0-OSC_IN, 6 PH1-OSC_OUT, 7 NRST, 8 VSSA, 9 VDDA, 10 PA0, 11 PA1, 12 PA2, 13 PA3, 14 PA4, 15 PA5, 16 PA6, 17 PA7, 18 PB0, 19 PB1, 20 PB2, 21 PB10, 22 PB11, 23 VSS_1, 24 VDD_2, 25 PB12, 26 PB13, 27 PB14, 28 PB15, 29 PA8, 30 PA9, 31 PA10, 32 PA11, 33 PA12, 34 PA13, 35 VSS_2, 36 VDD_USB, 37 PA14, 38 PA15, 39 PB3, 40 PB4, 41 PB5, 42 PB6, 43 PB7, 44 BOOT0, 45 PB8, 46 PB9, 47 VSS_3, 48 VDD_3

## SY21036
designator U?
Integrated Circuit; Manufacturer_Name: Silergy; Manufacturer_Part_Number: SY21036ABC; Datasheet Link: https://www.silergy.com/download/downloadFile?id=3186&type=product&ftype=note; Height: 1.3mm; Mouser Part Number: 445-SY21036ABC; Mouser Price/Stock: https://www.mouser.co.uk/ProductDetail/Silergy/SY21036ABC?qs=jRuttqqUwMQMCLI4a01TJQ%3D%3D
pins: 1 BS, 2 GND, 3 FB, 4 EN, 5 IN, 6 LX

## TA8207K
designator DA?
part A pins: 1 b.s.1, 2 Ch1, 3 Vcc2, 4 ripple, 5 In-, 6 In+, 9 Gnd, 12 Vcc1
part B pins: 7 In+, 8 In-, 10 Ch2, 11 b.s.2

## TAS5103DAPR
designator DA?
pins: 1 GVDD_CD, 2 M2, 3 M1, 4 OC_ADJ, 5 FAULT, 6 PWM_D, 7 PWM_C, 8 PWM_B, 9 PWM_A, 10 RESET, 11 OTW, 12 SSTIMER, 13 GND, 14 AGND, 15 VREG, 16 GVDD_AB, 17 BST_A, 18 PVDD_A, 19 OUT_A, 20 PGND_AB, 21 PGND_AB, 22 OUT_B, 23 PVDD_B, 24 BST_B, 25 BST_C, 26 PVDD_C, 27 OUT_C, 28 PGND_CD, 29 PGND_CD, 30 OUT_D, 31 PVDD_D, 32 BST_D, 33 E_Pad

## TC4420
designator DA?
pins: 1 Vdd, 2 In, 3 nc, 4 Gnd, 5 Gnd, 6 Out, 7 Out, 8 Vdd

## TCA9509DGKR
designator U?
pins: 1 VCCA, 2 SCLA, 3 SDAA, 4 GND, 5 EN, 6 SDAB, 7 SCLB, 8 VCCB

## TL071HIDBVR_1
designator IC?
Integrated Circuit; Manufacturer_Name: Texas Instruments; Manufacturer_Part_Number: TL071HIDBVR; Datasheet Link: https://www.ti.com/lit/ds/symlink/tl071h.pdf?ts=1631522494957; Height: 1.45mm; Mouser Part Number: 595-TL071HIDBVR; Mouser Price/Stock: https://www.mouser.co.uk/ProductDetail/Texas-Instruments/TL071HIDBVR?qs=pBJMDPsKWf2LWnCCHbBi7g%3D%3D; Arrow Part Number: TL071HIDBVR; Arrow Price/Stock: https://www.arrow.com/en/products/tl071hidbvr/texas-instruments?region=europe
footprint SOT95P280X145-5N
pins: 1 OUT, 2 V-, 3 IN+, 4 IN-, 5 V+

## TL072_2xOpAmp
designator DA?, comment TL072
Low-Noise JFET-Input Operational Amplifiers
part A pins: 1, 2 -, 3 +, 4 Vcc-, 8 Vcc+
part B pins: 5 +, 6 -, 7

## TL074_4xOpAmp
designator DA?, comment TL074
Low-Noise JFET-Input Operational Amplifiers
part A pins: 1, 2 -, 3 +, 4 Vcc, 11 Vcc-
part B pins: 5 +, 6 -, 7
part C pins: 8, 9 -, 10 +
part D pins: 12 +, 13 -, 14

## TL074CD
designator DA?
Low-Noise J-FET Quad Operational Amplifier; Published: 24-Aug-2001; LatestRevisionDate: 13-Apr-2006; LatestRevisionNote: IPC-7351 Footprint Added.; DatasheetVersion: Dec-1998; PackageVersion: Sep-1998; PackageReference: SO14; Publisher: Altium Limited; PackageDescription: 14-Pin Small Outline Integrated Circuit 1.27 mm Pitch; Code_IPC: SOIC127P600-14; ComponentLink1Description: Manufacturer Link; ComponentLink1URL: http://www.st.com/; ComponentLink2Description: Datasheet; ComponentLink2URL: http://www.st.com/stonline/products/literature/ds/2297/tl074.pdf
footprint SO14_N (SOIC, 14-Leads, Body 8.7x3.9mm, Pitch 1.27mm, IPC Medium Density)
footprint SO14_L (SOIC, 14-Leads, Body 8.7x3.9mm, Pitch 1.27mm, IPC High Density)
footprint SO14_M (SOIC, 14-Leads, Body 8.7x3.9mm, Pitch 1.27mm, IPC Low Density)
3D model SO14 (14-Pin Small Outline Integrated Circuit 1.27 mm Pitch)
simulation model TL074 (SUBCKT)
part A pins: 1 OUT (out), 2 IN- (in), 3 IN+ (in), 4 V+ (power), 11 V- (power)
part B pins: 5 IN+ (in), 6 IN- (in), 7 OUT (out)
part C pins: 8 OUT (out), 9 IN- (in), 10 IN+ (in)
part D pins: 12 IN+ (in), 13 IN- (in), 14 OUT (out)
part A text: A
part B text: B
part C text: C
part D text: D

## TL431
designator DA?
pins: 1 A, 2 K, 3 REF

## TL431BCDBVR
designator DA?
Integrated Circuit; Manufacturer_Name: Texas Instruments; Manufacturer_Part_Number: TL431BCDBVR; Datasheet Link: https://www.ti.com/lit/ds/symlink/tl431.pdf?ts=1620107596032&ref_url=https%253A%252F%252Fwww.ti.com%252Fstore%252Fti%252Fen%252Fp%252Fproduct%252F%253Fp%253DTL431BCDBVR; Height: 1.45mm; Mouser Part Number: 595-TL431BCDBVR; Mouser Price/Stock: https://www.mouser.co.uk/ProductDetail/Texas-Instruments/TL431BCDBVR?qs=odmYgEirbwy2ma5kHAvl2g%3D%3D; Arrow Part Number: TL431BCDBVR; Arrow Price/Stock: https://www.arrow.com/en/products/tl431bcdbvr/texas-instruments
footprint SOT95P280X145-5N
pins: 1 NC, 2 A_1, 3 C, 4 REF, 5 A_2

## TL494CDR
designator DD?
pins: 1 1IN+, 2 1IN-, 3 FEEDBACK, 4 DTC, 5 CT , 6 RT, 7 GND , 8 C1, 9 E1 , 10 E2, 11 C2, 12 VCC , 13 OUTPUT, 14 REF , 15 2IN-, 16 2IN+
text: DC-DC

## TL494NC
designator DD?
pins: 1 1IN+, 2 1IN-, 3 FEEDBACK, 4 DTC, 5 CT , 6 RT, 7 GND , 8 C1, 9 E1 , 10 E2, 11 C2, 12 VCC , 13 OUTPUT, 14 REF , 15 2IN-, 16 2IN+
text: DC-DC

## TLP521-4
designator DA?
part A pins: 1, 2, 15, 16
part B pins: 3, 4, 13, 14
part C pins: 5, 6, 11, 12
part D pins: 7, 8, 9, 10

## TOP246YN
designator DA?
ШИМ-контроллер Off-line PWM switch, 40-60Вт [TO-220-7]
pins: 1 C, 2 L, 3 X, 4 S, 5 F, 6 nc, 7 D
text: Control

## TPA2006D1DRBR
designator DA?
pins: 1 ~{SHUTDOWN} (in) "Shutdown terminal (active low logic)", 2 NC "No internal connection", 3 IN+ (in) "Positive differential input", 4 IN- (in) "Negative differential input", 5 VO+ (out) "Positive BTL output", 6 VDD (power) "Power supply", 7 GND (power) "High-current ground", 8 VO- (out) "Negative BTL output", 9 EP (power) "Must be soldered to a grounded pad on the PCB."
text: W

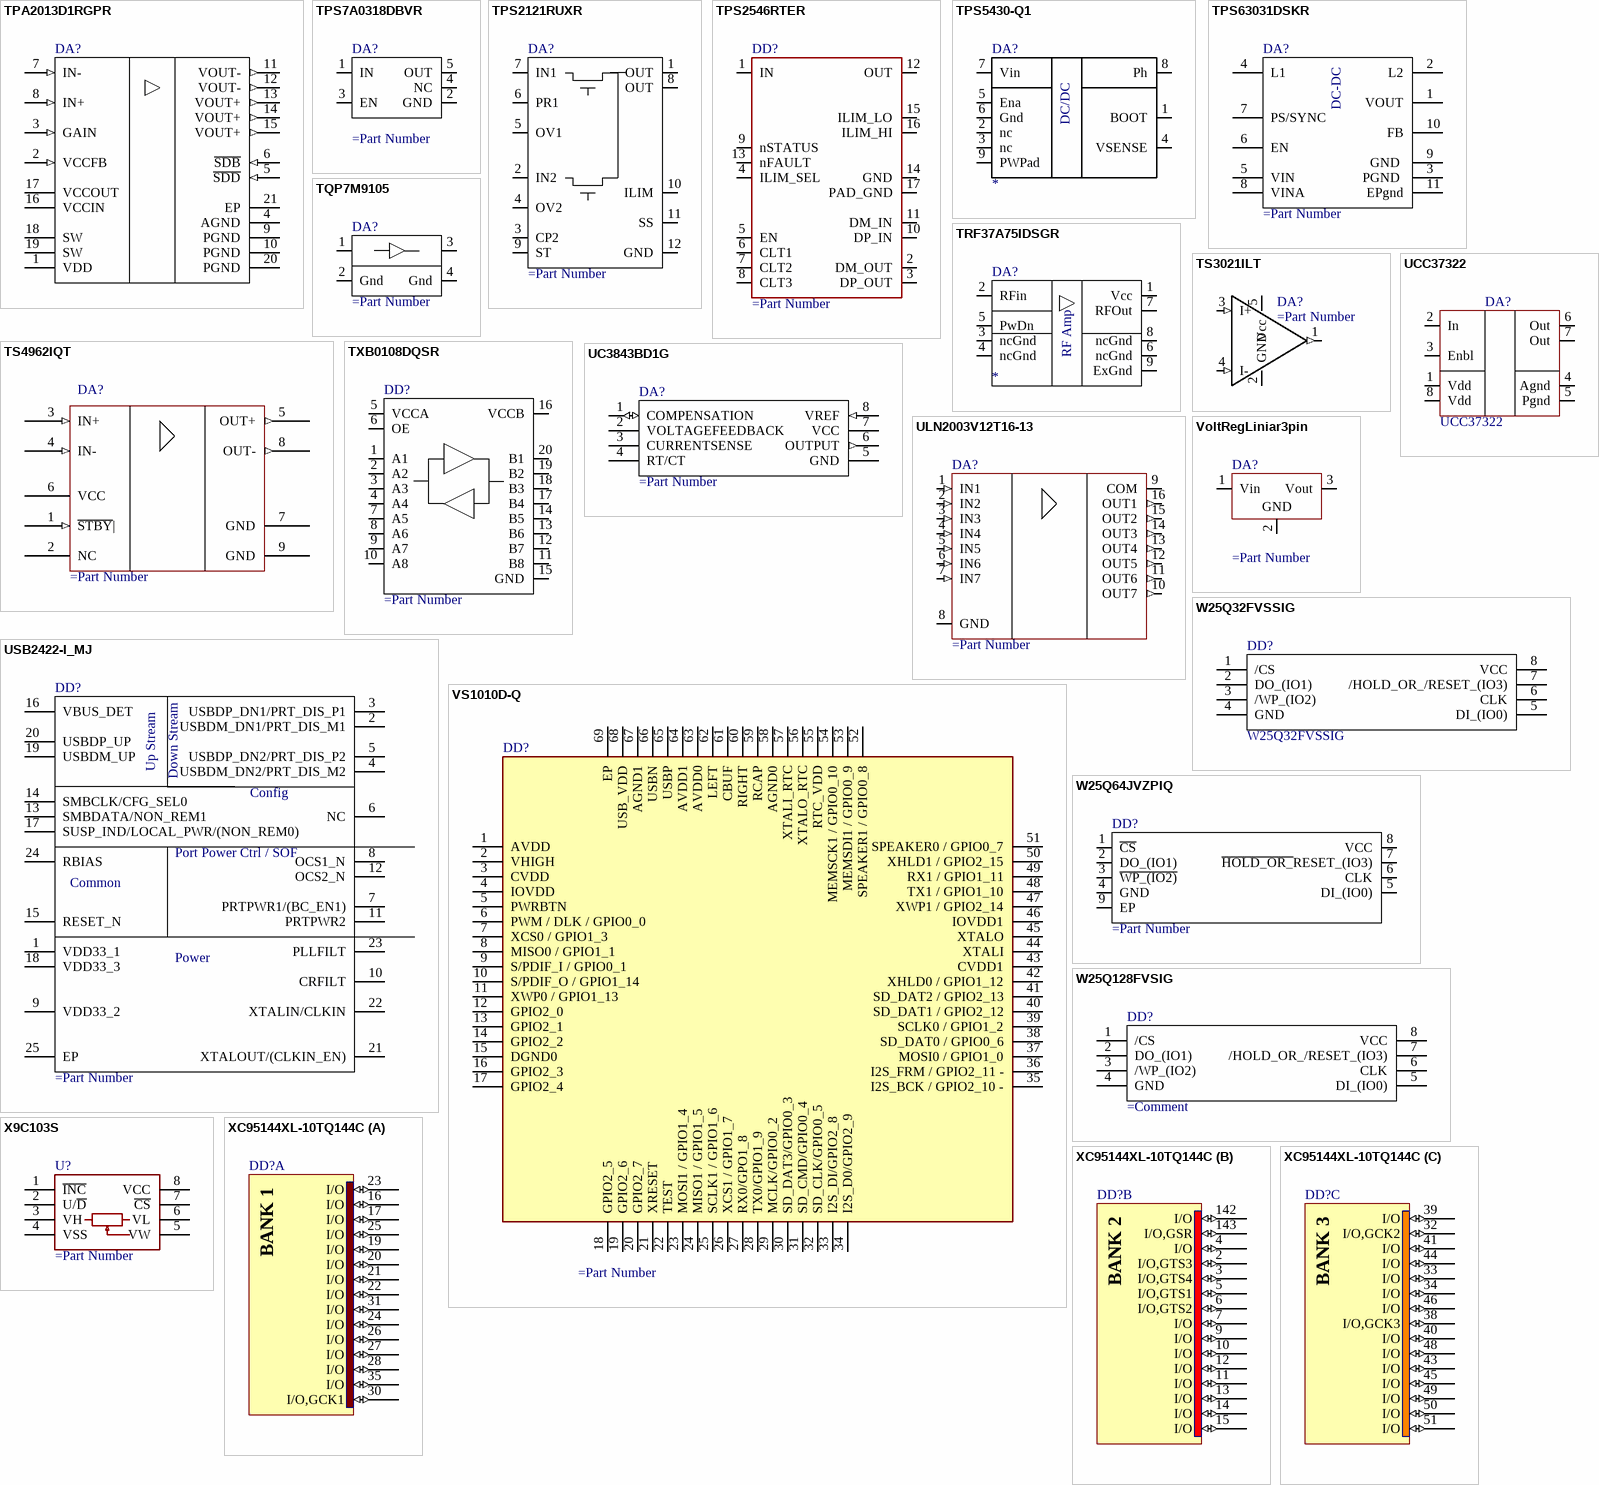
[diagram p24: symbols TPA2013D1RGPR to XC95144XL-10TQ144C]

## TPA2013D1RGPR
designator DA?
2.7-W Constant Output Power Mono Class-D Audio Amplifier with Integrated Boost Converter, -40 to 85 degC, 20-pin QFN (RGP20), Green (RoHS & no Sb/Br); Manufacturer: Texas Instruments; PartNumber: TPA2013D1RGPR; Output Power(W): 2.7; PSRR(dB): -95; Speaker Amp Type: Class-D, Class-D Boosted; SubFamily: Dynamic Speaker; Supply Max(Max)(Volt): 5.5; Supply Min(Min)(Volt): 1.8; DatasheetVersion: SLOS520; PackageVersion: 4203555/G, 07/2011; PackageReference: RGP20-2700X2700TP; PackageDescription: 20-Pin Plastic Quad Flatpack No-Pin, 4 x 4 mm Body, 0.5 mm Pitch; Supplier 1: Digi-Key; Supplier Part Number 1: 296-22849-2-ND; Supplier 2: Digi-Key; Supplier Part Number 2: 296-22849-1-ND; Supplier 3: Digi-Key; Supplier Part Number 3: 296-22849-6-ND; Supplier 4: Farnell; Supplier Part Number 4: 2323267; Supplier 5: Newark; Supplier Part Number 5: 96W3385; Supplier 6: Newark; Supplier Part Number 6: 60M1774; Supplier 7: Mouser; Supplier Part Number 7: 595-TPA2013D1RGPR; Eco-Plan: Green (RoHS & no Sb/Br); Speaker Channels: Mono; Mounting Technology: Surface Mount; Code_JEDEC: MO-220; ComponentLink1Description: Manufacturer URL; ComponentLink1URL: http://www.ti.com/; ComponentLink2Description: Datasheet; ComponentLink2URL: http://www.ti.com/general/docs/lit/getliterature.tsp?genericPartNumber=TPA2013D1&fileType=pdf; ComponentLink3Description: Package Specification; ComponentLink3URL: http://www.ti.com/litv/pdf/mpqf135c
footprint TI-RGP20-2700X2700TP_V (QFN, 20-Leads, Body 4x4mm, Pitch 0.5mm, Thermal Pad 2.7x2.7mm)
pins: 1 VDD (power) "Supply voltage", 2 VCCFB (in) "Voltage feedback", 3 GAIN (in) "Gain selection pin", 4 AGND (power) "Analog ground - connect all GND pins together", 5 ~{SDD} (in) "Shutdown terminal for the Class D Amplifier", 6 ~{SDB} (in) "Shutdown terminal for the Boost Converter", 7 IN- (in) "Negative audio input", 8 IN+ (in) "Positive audio input", 9 PGND (power) "Power ground - connect all GND pins together", 10 PGND (power) "Power ground - connect all GND pins together", 11 VOUT- (out) "Negative audio output", 12 VOUT- (out) "Negative audio output", 13 VOUT+ (out) "Positive audio output", 14 VOUT+ (out) "Positive audio output", 15 VOUT+ (out) "Positive audio output", 16 VCCIN (power) "Class-D audio power amplifier voltage supply - connect to VCCOUT", 17 VCCOUT (power) "Boost converter output - connect to VCCIN", 18 SW (power) "Boost and rectifying switch input", 19 SW (power) "Boost and rectifying switch input", 20 PGND (power) "Power ground - connect all GND pins together", 21 EP (power) "Solder the thermal pad on the bottom of the QFN package to the GND plane of the PCB. It is required for mechanical stability and will enhance thermal performance."

## TPS7A0318DBVR
designator DA?
pins: 1 IN, 2 GND, 3 EN, 4 NC, 5 OUT

## TPS2121RUXR
designator DA?
pins: 1 OUT, 2 IN2, 3 CP2, 4 OV2, 5 OV1, 6 PR1, 7 IN1, 8 OUT, 9 ST, 10 ILIM, 11 SS, 12 GND

## TPS2546RTER
designator DD?
pins: 1 IN, 2 DM_OUT, 3 DP_OUT, 4 ILIM_SEL, 5 EN, 6 CLT1, 7 CLT2, 8 CLT3, 9 nSTATUS, 10 DP_IN, 11 DM_IN, 12 OUT, 13 nFAULT, 14 GND, 15 ILIM_LO, 16 ILIM_HI, 17 PAD_GND

## TPS5430-Q1
designator DA?
pins: 1 BOOT, 2 nc, 3 nc, 4 VSENSE, 5 Ena, 6 Gnd, 7 Vin, 8 Ph, 9 PWPad
text: DC/DC

## TPS63031DSKR
designator DA?
pins: 1 VOUT, 2 L2, 3 PGND , 4 L1 , 5 VIN , 6 EN , 7 PS/SYNC, 8 VINA , 9 GND , 10 FB, 11 EPgnd
text: DC-DC

## TQP7M9105
designator DA?
pins: 1 RF Out, 2 Gnd, 3 RF In, 4 Gnd

## TRF37A75IDSGR
designator DA?
pins: 1 Vcc, 2 RFin, 3 ncGnd, 4 ncGnd, 5 PwDn, 6 ncGnd, 7 RFOut, 8 ncGnd, 9 ExGnd
text: RF Amp

## TS3021ILT
designator DA?
Integrated Circuit
footprint SOT95P280X145-5N
pins: 1 O (out), 2 GND (power), 3 I+ (in), 4 I- (in), 5 Vcc (power)

## TS4962IQT
designator DA?
pins: 1 ~{STBY}| (in), 2 NC, 3 IN+ (in), 4 IN- (in), 5 OUT+ (out), 6 VCC, 7 GND, 8 OUT- (out), 9 GND

## TXB0108DQSR
designator DD?
Integrated Circuit; Manufacturer_Name: Texas Instruments; Manufacturer_Part_Number: TXB0108DQSR; Datasheet Link: http://www.ti.com/lit/gpn/txb0108; Height: 0mm; Mouser Part Number: 595-TXB0108DQSR; Mouser Price/Stock: https://www.mouser.co.uk/ProductDetail/Texas-Instruments/TXB0108DQSR?qs=EuM%2FBx4ov4SMZCOlCh%2FWxA%3D%3D; Arrow Part Number: TXB0108DQSR; Arrow Price/Stock: https://www.arrow.com/en/products/txb0108dqsr/texas-instruments?region=nac
footprint TXB0108DQSR
pins: 1 A1, 2 A2, 3 A3, 4 A4, 5 VCCA, 6 OE, 7 A5, 8 A6, 9 A7, 10 A8, 11 B8, 12 B7, 13 B6, 14 B5, 15 GND, 16 VCCB, 17 B4, 18 B3, 19 B2, 20 B1

## UC3843BD1G
designator DA?
Integrated Circuit; Manufacturer_Name: ON Semiconductor; Manufacturer_Part_Number: UC3843BD1G; Datasheet Link: http://www.onsemi.com/pub/Collateral/UC3842B-D.PDF; Height: 1.75mm; Arrow Part Number: UC3843BD1G; Arrow Price/Stock: https://www.arrow.com/en/products/uc3843bd1g/on-semiconductor; Mouser Part Number: 863-UC3843BD1G; Mouser Price/Stock: https://www.mouser.co.uk/ProductDetail/ON-Semiconductor/UC3843BD1G?qs=xZq1yRCsb1e%2FKCJUacBVZA%3D%3D
footprint SOIC127P600X175-8N
pins: 1 COMPENSATION (io), 2 VOLTAGEFEEDBACK, 3 CURRENTSENSE, 4 RT/CT, 5 GND (power), 6 OUTPUT (out), 7 VCC (power), 8 VREF (in)

## UCC37322
designator DA?
pins: 1 Vdd, 2 In, 3 Enbl, 4 Agnd, 5 Pgnd, 6 Out, 7 Out, 8 Vdd

## ULN2003V12T16-13
designator DA?
pins: 1 IN1 (in), 2 IN2 (in), 3 IN3 (in), 4 IN4 (in), 5 IN5 (in), 6 IN6 (in), 7 IN7 (in), 8 GND, 9 COM, 10 OUT7 (out), 11 OUT6 (out), 12 OUT5 (out), 13 OUT4 (out), 14 OUT3 (out), 15 OUT2 (out), 16 OUT1 (out)

## USB2422-I_MJ
designator DD?
Manufacturer_Name: Microchip; Manufacturer_Part_Number: USB2422-I/MJ; Datasheet Link: https://datasheet.datasheetarchive.com/originals/distributors/DKDS-15/280029.pdf; Height: 1mm; Mouser Part Number: 579-USB2422-I/MJ; Mouser Price/Stock: https://www.mouser.co.uk/ProductDetail/Microchip-Technology-Atmel/USB2422-I-MJ?qs=eTPcRhULBzzm1uvzgv8YJg%3D%3D; Arrow Part Number: USB2422-I/MJ; Arrow Price/Stock: https://www.arrow.com/en/products/usb2422-imj/microchip-technology?region=nac
footprint QFN50P400X400X100-25N-D
pins: 1 VDD33_1, 2 USBDM_DN1/PRT_DIS_M1, 3 USBDP_DN1/PRT_DIS_P1, 4 USBDM_DN2/PRT_DIS_M2, 5 USBDP_DN2/PRT_DIS_P2, 6 NC, 7 PRTPWR1/(BC_EN1), 8 OCS1_N, 9 VDD33_2, 10 CRFILT, 11 PRTPWR2, 12 OCS2_N, 13 SMBDATA/NON_REM1, 14 SMBCLK/CFG_SEL0, 15 RESET_N, 16 VBUS_DET, 17 SUSP_IND/LOCAL_PWR/(NON_REM0), 18 VDD33_3, 19 USBDM_UP, 20 USBDP_UP, 21 XTALOUT/(CLKIN_EN), 22 XTALIN/CLKIN, 23 PLLFILT, 24 RBIAS, 25 EP
text: Up Stream; Down Stream; Config; Port Power Ctrl / SOF; Common; Power

## VoltRegLiniar3pin
designator DA?
VoltRegLiniar3pin
pins: 1 Vin, 2 GND, 3 Vout

## VS1010D-Q
designator DD?
pins: 1 AVDD , 2 VHIGH, 3 CVDD, 4 IOVDD, 5 PWRBTN, 6 PWM / DLK / GPIO0_0, 7 XCS0 / GPIO1_3, 8 MISO0 / GPIO1_1, 9 S/PDIF_I / GPIO0_1, 10 S/PDIF_O / GPIO1_14, 11 XWP0 / GPIO1_13 , 12 GPIO2_0, 13 GPIO2_1, 14 GPIO2_2, 15 DGND0, 16 GPIO2_3, 17 GPIO2_4, 18 GPIO2_5, 19 GPIO2_6, 20 GPIO2_7, 21 XRESET, 22 TEST, 23 MOSI1 / GPIO1_4, 24 MISO1 / GPIO1_5, 25 SCLK1 / GPIO1_6, 26 XCS1 / GPIO1_7, 27 RX0/GPO1_8, 28 TX0/GPIO1_9, 29 MCLK/GPIO0_2, 30 SD_DAT3/GPIO0_3, 31 SD_CMD/GPIO0_4, 32 SD_CLK/GPIO0_5, 33 I2S_DI/GPIO2_8, 34 I2S_D0/GPIO2_9, 35 I2S_BCK / GPIO2_10 -, 36 I2S_FRM / GPIO2_11 -, 37 MOSI0 / GPIO1_0, 38 SD_DAT0 / GPIO0_6, 39 SCLK0 / GPIO1_2, 40 SD_DAT1 / GPIO2_12, 41 SD_DAT2 / GPIO2_13, 42 XHLD0 / GPIO1_12, 43 CVDD1, 44 XTALI, 45 XTALO, 46 IOVDD1, 47 XWP1 / GPIO2_14, 48 TX1 / GPIO1_10, 49 RX1 / GPIO1_11, 50 XHLD1 / GPIO2_15, 51 SPEAKER0 / GPIO0_7, 52 SPEAKER1 / GPIO0_8, 53 MEMSDI1 / GPIO0_9, 54 MEMSCK1 / GPIO0_10, 55 RTC_VDD, 56 XTALO_RTC, 57 XTALI_RTC, 58 AGND0, 59 RCAP, 60 RIGHT, 61 CBUF, 62 LEFT, 63 AVDD0, 64 AVDD1, 65 USBP, 66 USBN, 67 AGND1, 68 USB_VDD, 69 EP

## W25Q32FVSSIG
designator DD?
Manufacturer_Name: Winbond; Manufacturer_Part_Number: W25Q32FVSSIG TR; Datasheet Link: https://www.winbond.com/resource-files/w25q32fv revj 06032016.pdf; Height: 2.16mm; Arrow Part Number: W25Q32FVSSIG TR; Mouser Part Number: N/A; Mouser Price/Stock: https://www.mouser.co.uk/ProductDetail/Winbond/W25Q32FVSSIG-TR?qs=rkhjVJ6%2F3EKsJa4FwxQHwg%3D%3D
footprint SOIC127P790X216-8N
pins: 1 /CS, 2 DO_(IO1), 3 /WP_(IO2), 4 GND, 5 DI_(IO0), 6 CLK, 7 /HOLD_OR_/RESET_(IO3), 8 VCC

## W25Q64JVZPIQ
designator DD?
Integrated Circuit; Manufacturer_Name: Winbond; Manufacturer_Part_Number: W25Q64JVZPIQ; Datasheet Link: https://www.winbond.com/hq/search-resource-file.jsp?partNo=W25Q64JVZPIQ&type=datasheet; Height: 0.8mm; Mouser Part Number: 454-W25Q64JVZPIQ; Mouser Price/Stock: https://www.mouser.co.uk/ProductDetail/Winbond/W25Q64JVZPIQ?qs=qSfuJ%252Bfl%2Fd7Nj8XAKQ%2FzKA%3D%3D; Arrow Part Number: W25Q64JVZPIQ; Arrow Price/Stock: https://www.arrow.com/en/products/w25q64jvzpiq/winbond-electronics?region=nac
footprint SON127P600X500X80-9N-D
pins: 1 ~{CS}, 2 DO_(IO1), 3 ~{WP_(IO2)}, 4 GND, 5 DI_(IO0), 6 CLK, 7 ~{HOLD_OR_}RESET_(IO3), 8 VCC, 9 EP

## W25Q128FVSIG
designator DD?
Manufacturer_Name: Winbond; Manufacturer_Part_Number: W25Q128FVSIG; Datasheet Link: https://www.winbond.com/resource-files/w25q128fv rev.m 05132016 kms.pdf; Height: 2.16mm; Arrow Part Number: W25Q128FVSIG; Arrow Price/Stock: https://www.arrow.com/en/products/w25q128fvsig/winbond-electronics; Mouser Part Number: N/A; Mouser Price/Stock: https://www.mouser.co.uk/ProductDetail/Winbond/W25Q128FVSIG?qs=rkhjVJ6%2F3EIwu4pV702YLQ%3D%3D
footprint SOIC127P790X216-8N
pins: 1 /CS, 2 DO_(IO1), 3 /WP_(IO2), 4 GND, 5 DI_(IO0), 6 CLK, 7 /HOLD_OR_/RESET_(IO3), 8 VCC

## X9C103S
designator U?
pins: 1 ~{INC}, 2 U/~{D}, 3 VH, 4 VSS, 5 VW, 6 VL, 7 ~{CS}, 8 VCC

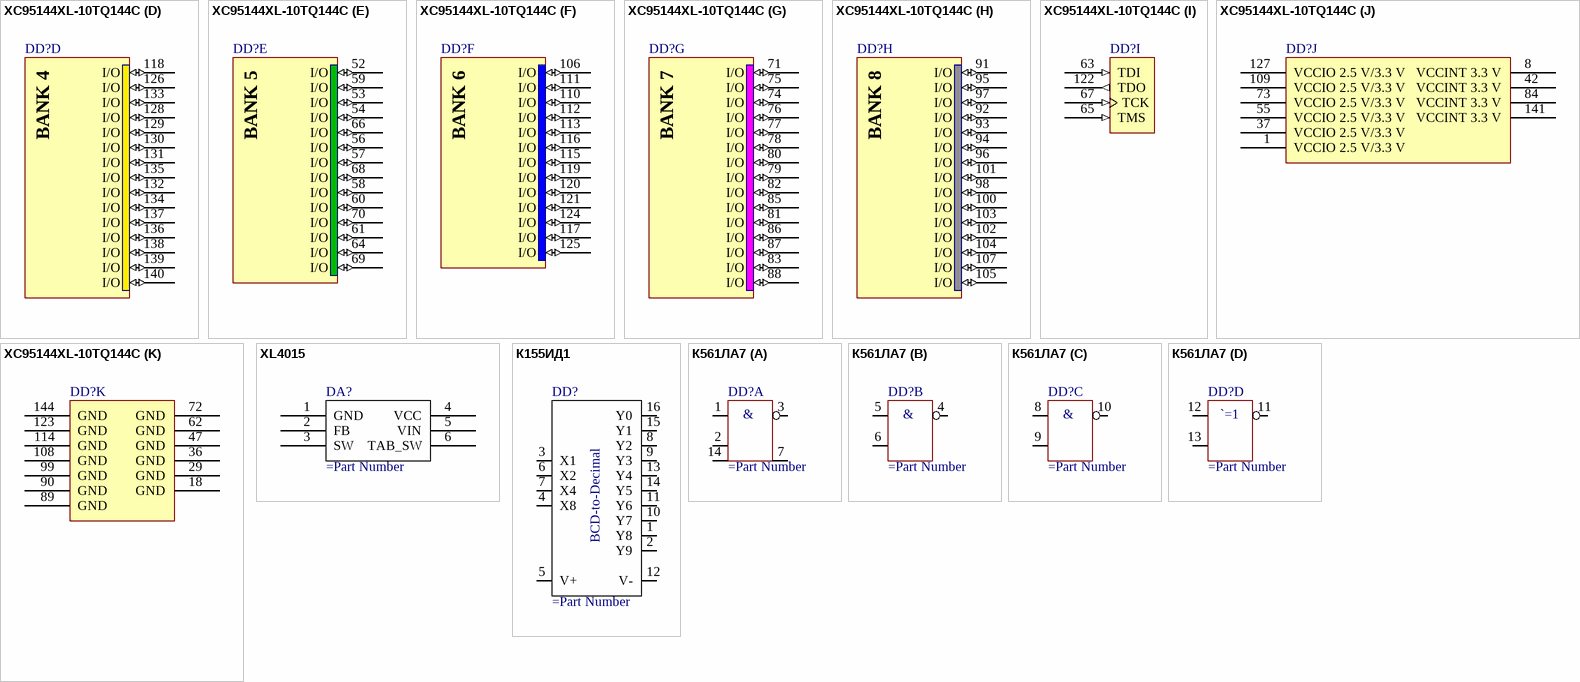
[diagram p25: symbols XC95144XL-10TQ144C to К561ЛА7]

## XC95144XL-10TQ144C
designator DD?
FastFLASH XC900XL, 3.3V High-Performance 144 Macrocell CPLD, 117 User I/Os, 144-Pin TQFP, Speed Grade 10, Commercial Grade; Published: 17-Jul-2002; LatestRevisionDate: 18-Nov-2009; LatestRevisionNote: Updated to datasheet version 2.5 May-2009.; DatasheetVersion: ver2.0, Apr-2007; PackageVersion: ver1.2, Jun-2004; PackageReference: TQ144; Publisher: Altium Limited; PackageDescription: 144-Pin Thin Quad Flat Pack (TQ144); Supplier 1: Newark; Supplier Part Number 1: 57K6676; Code_JEDEC: MS-026-BFB; ComponentLink1Description: XC95144XL Datasheet; ComponentLink1URL: http://www.xilinx.com/support/documentation/data_sheets/ds056.pdf; ComponentLink2Description: TQ144 Package Drawing; ComponentLink2URL: http://www.xilinx.com/support/documentation/package_specs/tq144.pdf; ComponentLink3Description: XC9500XL Documents; ComponentLink3URL: http://www.xilinx.com/support/documentation/xc9500xl.htm; ComponentLink4Description: Xilinx.com Home; ComponentLink4URL: http://www.xilinx.com
footprint TQ144_N (Thin QFP, 144-Leads, Body 20x20mm, Pitch 0.5mm, IPC Medium Density)
footprint TQ144_L (Thin QFP, 144-Leads, Body 20x20mm, Pitch 0.5mm, IPC High Density)
footprint TQ144_M (Thin QFP, 144-Leads, Body 20x20mm, Pitch 0.5mm, IPC Low Density)
signal-integrity model XC95144XL_TQ144 (XC9500XL)
part A pins: 16 I/O (io), 17 I/O (io), 19 I/O (io), 20 I/O (io), 21 I/O (io), 22 I/O (io), 23 I/O (io), 24 I/O (io), 25 I/O (io), 26 I/O (io), 27 I/O (io), 28 I/O (io), 30 I/O,GCK1 (io), 31 I/O (io), 35 I/O (io)
part B pins: 2 I/O,GTS3 (io), 3 I/O,GTS4 (io), 4 I/O (io), 5 I/O,GTS1 (io), 6 I/O,GTS2 (io), 7 I/O (io), 9 I/O (io), 10 I/O (io), 11 I/O (io), 12 I/O (io), 13 I/O (io), 14 I/O (io), 15 I/O (io), 142 I/O (io), 143 I/O,GSR (io)
part C pins: 32 I/O,GCK2 (io), 33 I/O (io), 34 I/O (io), 38 I/O,GCK3 (io), 39 I/O (io), 40 I/O (io), 41 I/O (io), 43 I/O (io), 44 I/O (io), 45 I/O (io), 46 I/O (io), 48 I/O (io), 49 I/O (io), 50 I/O (io), 51 I/O (io)
part D pins: 118 I/O (io), 126 I/O (io), 128 I/O (io), 129 I/O (io), 130 I/O (io), 131 I/O (io), 132 I/O (io), 133 I/O (io), 134 I/O (io), 135 I/O (io), 136 I/O (io), 137 I/O (io), 138 I/O (io), 139 I/O (io), 140 I/O (io)
part E pins: 52 I/O (io), 53 I/O (io), 54 I/O (io), 56 I/O (io), 57 I/O (io), 58 I/O (io), 59 I/O (io), 60 I/O (io), 61 I/O (io), 64 I/O (io), 66 I/O (io), 68 I/O (io), 69 I/O (io), 70 I/O (io)
part F pins: 106 I/O (io), 110 I/O (io), 111 I/O (io), 112 I/O (io), 113 I/O (io), 115 I/O (io), 116 I/O (io), 117 I/O (io), 119 I/O (io), 120 I/O (io), 121 I/O (io), 124 I/O (io), 125 I/O (io)
part G pins: 71 I/O (io), 74 I/O (io), 75 I/O (io), 76 I/O (io), 77 I/O (io), 78 I/O (io), 79 I/O (io), 80 I/O (io), 81 I/O (io), 82 I/O (io), 83 I/O (io), 85 I/O (io), 86 I/O (io), 87 I/O (io), 88 I/O (io)
part H pins: 91 I/O (io), 92 I/O (io), 93 I/O (io), 94 I/O (io), 95 I/O (io), 96 I/O (io), 97 I/O (io), 98 I/O (io), 100 I/O (io), 101 I/O (io), 102 I/O (io), 103 I/O (io), 104 I/O (io), 105 I/O (io), 107 I/O (io)
part I pins: 63 TDI (in), 65 TMS (in), 67 TCK (in), 122 TDO (out)
part J pins: 1 VCCIO 2.5 V/3.3 V (power), 8 VCCINT 3.3 V (power), 37 VCCIO 2.5 V/3.3 V (power), 42 VCCINT 3.3 V (power), 55 VCCIO 2.5 V/3.3 V (power), 73 VCCIO 2.5 V/3.3 V (power), 84 VCCINT 3.3 V (power), 109 VCCIO 2.5 V/3.3 V (power), 127 VCCIO 2.5 V/3.3 V (power), 141 VCCINT 3.3 V (power)
part K pins: 18 GND (power), 29 GND (power), 36 GND (power), 47 GND (power), 62 GND (power), 72 GND (power), 89 GND (power), 90 GND (power), 99 GND (power), 108 GND (power), 114 GND (power), 123 GND (power), 144 GND (power)
part A text: BANK 1
part B text: BANK 2
part C text: BANK 3
part D text: BANK 4
part E text: BANK 5
part F text: BANK 6
part G text: BANK 7
part H text: BANK 8

## XL4015
designator DA?
pins: 1 GND, 2 FB, 3 SW, 4 VCC, 5 VIN, 6 TAB_SW

## К155ИД1
designator DD?
pins: 1 Y8, 2 Y9, 3 X1, 4 X8, 5 V+, 6 X2, 7 X4, 8 Y2, 9 Y3, 10 Y7, 11 Y6, 12 V-, 13 Y4, 14 Y5, 15 Y1, 16 Y0
text: BCD-to-Decimal

## К561ЛА7
designator DD?
part A pins: 1, 2, 3, 7 GND (power), 14 VCC (power)
part B pins: 4, 5, 6
part C pins: 8, 9, 10
part D pins: 11, 12, 13
part A text: &
part B text: &
part C text: &
part D text: `=1